# Altium integrated library Xilinx Virtex-II.IntLib: 158 symbols (part 15 of 59)
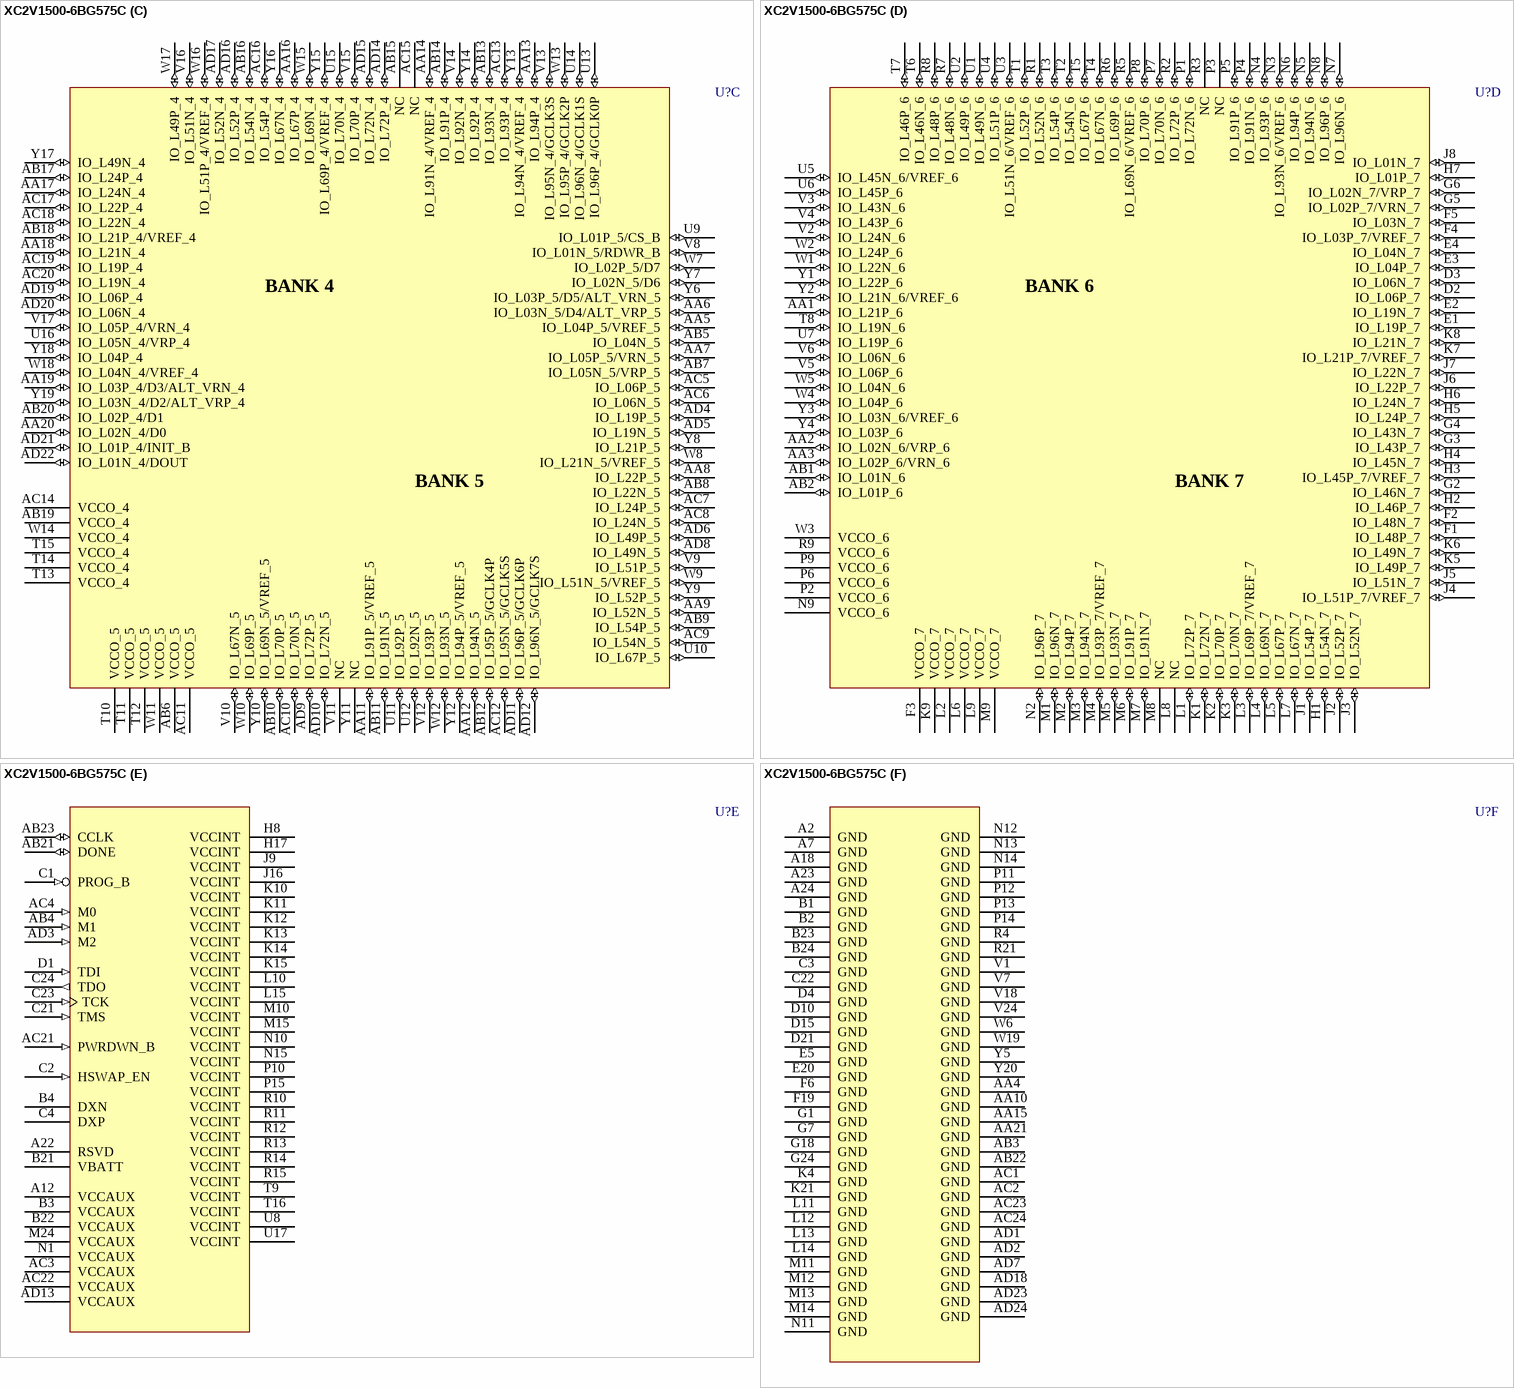
[diagram p413: symbol XC2V1500-6BG575C]

## XC2V1500-6BG575C
designator U?
Virtex-II 1.5V FPGA, 575-Ball BGA, Commercial Grade; PackageDocument: ver1.0, Apr-2001; Published: 15-Apr-2002; DatasheetDocument: Mar-2004; PackageReference: BG575; Publisher: Altium Limited; Code_JEDEC: MS-034-BAN-1 (Depopulated)
footprint BG575 (575-Ball Molded Ball Grid Array (BG575))
3D model XC2V1500-BG575 (575-Ball Molded Ball Grid Array (BG575))
signal-integrity model XC2V1500_BG575 (Virtex-II)
part A pins: A3 IO_L01N_0 (io), A4 IO_L01P_0 (io), A5 IO_L06N_0 (io), A6 IO_L06P_0 (io), A8 IO_L67N_0 (io), A9 IO_L67P_0 (io), A10 IO_L72N_0 (io), A11 IO_L72P_0 (io), A13 IO_L96N_1/GCLK3P (io), A14 IO_L96P_1/GCLK2S (io), A15 IO_L72N_1 (io), A16 IO_L72P_1 (io), A17 IO_L49N_1 (io), A19 IO_L49P_1 (io), A20 IO_L19N_1 (io), A21 IO_L19P_1 (io), B5 IO_L19N_0 (io), B6 IO_L19P_0 (io), B7 IO_L51N_0 (io), B8 IO_L51P_0/VREF_0 (io), B9 IO_L69P_0/VREF_0 (io), B10 NC, B11 VCCO_0 (power), B12 IO_L93P_0 (io), B13 IO_L95N_1/GCLK1P (io), B14 VCCO_1 (power), B15 IO_L70N_1 (io), B16 IO_L54N_1 (io), B17 IO_L24N_1 (io), B18 IO_L24P_1 (io), B19 IO_L06N_1 (io), B20 IO_L06P_1 (io), C5 IO_L02P_0 (io), C6 VCCO_0 (power), C7 IO_L21P_0/VREF_0 (io), C8 IO_L52P_0 (io), C9 IO_L69N_0 (io), C10 NC, C11 IO_L91P_0 (io), C12 IO_L93N_0 (io), C13 IO_L95P_1/GCLK0S (io), C14 IO_L91N_1 (io), C15 IO_L70P_1 (io), C16 IO_L54P_1 (io), C17 IO_L22N_1 (io), C18 IO_L05N_1 (io), C19 VCCO_1 (power), C20 IO_L04N_1 (io), D5 IO_L02N_0 (io), D6 IO_L03P_0/VRN_0 (io), D7 IO_L21N_0 (io), D8 IO_L52N_0 (io), D9 IO_L54P_0 (io), D11 IO_L91N_0/VREF_0 (io), D12 IO_L94P_0 (io), D13 IO_L94N_1 (io), D14 IO_L91P_1/VREF_1 (io), D16 IO_L52N_1 (io), D17 IO_L22P_1 (io), D18 IO_L05P_1 (io), D19 IO_L03N_1/VRP_1 (io), D20 IO_L04P_1/VREF_1 (io), E6 IO_L03N_0/VRP_0 (io), E7 IO_L04P_0 (io), E8 IO_L22P_0 (io), E9 IO_L54N_0 (io), E10 IO_L70P_0 (io), E11 IO_L92P_0 (io), E12 IO_L94N_0/VREF_0 (io), E13 IO_L94P_1/VREF_1 (io), E14 NC, E15 IO_L69N_1/VREF_1 (io), E16 IO_L52P_1 (io), E17 IO_L21P_1 (io), E18 IO_L02N_1 (io), E19 IO_L03P_1/VRN_1 (io), F7 IO_L04N_0/VREF_0 (io), F8 IO_L22N_0 (io), F9 IO_L24P_0 (io), F10 IO_L70N_0 (io), F11 VCCO_0 (power), F12 IO_L95P_0/GCLK6S (io), F13 IO_L93N_1 (io), F14 VCCO_1 (power), F15 IO_L69P_1 (io), F16 IO_L51N_1/VREF_1 (io), F17 IO_L21N_1/VREF_1 (io), F18 IO_L02P_1 (io), G8 IO_L05N_0 (io), G9 IO_L24N_0 (io), G10 IO_L49N_0 (io), G11 IO_L92N_0 (io), G12 IO_L95N_0/GCLK7P (io), G13 IO_L93P_1 (io), G14 NC, G15 IO_L67N_1 (io), G16 IO_L51P_1 (io), G17 IO_L01P_1 (io), H9 IO_L05P_0 (io), H10 IO_L49P_0 (io), H11 IO_L96N_0/GCLK5P (io), H12 IO_L96P_0/GCLK4S (io), H13 IO_L92N_1 (io), H14 IO_L92P_1 (io), H15 IO_L67P_1 (io), H16 IO_L01N_1 (io), J10 VCCO_0 (power), J11 VCCO_0 (power), J12 VCCO_0 (power), J13 VCCO_1 (power), J14 VCCO_1 (power), J15 VCCO_1 (power)
part B pins: AA22 IO_L06P_3 (io), AA23 IO_L06N_3 (io), AA24 IO_L19N_3 (io), AB24 IO_L19P_3 (io), D22 IO_L01N_2 (io), D23 IO_L01P_2 (io), D24 IO_L19N_2 (io), E21 IO_L02N_2/VRP_2 (io), E22 IO_L02P_2/VRN_2 (io), E23 IO_L19P_2 (io), E24 IO_L21N_2 (io), F20 IO_L03P_2/VREF_2 (io), F21 IO_L03N_2 (io), F22 VCCO_2 (power), F23 IO_L22N_2 (io), F24 IO_L21P_2/VREF_2 (io), G19 IO_L04P_2 (io), G20 IO_L04N_2 (io), G21 IO_L24N_2 (io), G22 IO_L24P_2 (io), G23 IO_L22P_2 (io), H18 IO_L06N_2 (io), H19 IO_L43N_2 (io), H20 IO_L43P_2 (io), H21 IO_L49N_2 (io), H22 IO_L49P_2 (io), H23 IO_L48N_2 (io), H24 IO_L48P_2 (io), J17 IO_L06P_2 (io), J18 IO_L45N_2 (io), J19 IO_L45P_2/VREF_2 (io), J20 IO_L54N_2 (io), J21 IO_L54P_2 (io), J22 IO_L52N_2 (io), J23 IO_L52P_2 (io), J24 IO_L51N_2 (io), K16 VCCO_2 (power), K17 IO_L46N_2 (io), K18 IO_L46P_2 (io), K19 IO_L67N_2 (io), K20 IO_L67P_2 (io), K22 IO_L72N_2 (io), K23 IO_L70N_2 (io), K24 IO_L51P_2/VREF_2 (io), L16 VCCO_2 (power), L17 IO_L69N_2 (io), L18 IO_L69P_2/VREF_2 (io), L19 VCCO_2 (power), L20 NC, L21 NC, L22 IO_L72P_2 (io), L23 VCCO_2 (power), L24 IO_L70P_2 (io), M16 VCCO_2 (power), M17 IO_L96N_2 (io), M18 IO_L96P_2 (io), M19 IO_L94N_2 (io), M20 IO_L94P_2 (io), M21 IO_L93N_2 (io), M22 IO_L93P_2/VREF_2 (io), M23 IO_L91N_2 (io), N16 VCCO_3 (power), N17 IO_L91N_3 (io), N18 IO_L93P_3 (io), N19 IO_L93N_3/VREF_3 (io), N20 IO_L94N_3 (io), N21 IO_L94P_3 (io), N22 IO_L96P_3 (io), N23 IO_L96N_3 (io), N24 IO_L91P_2 (io), P16 VCCO_3 (power), P17 IO_L91P_3 (io), P18 IO_L69P_3 (io), P19 VCCO_3 (power), P20 IO_L69N_3/VREF_3 (io), P21 IO_L70P_3 (io), P22 IO_L70N_3 (io), P23 VCCO_3 (power), P24 NC, R16 VCCO_3 (power), R17 IO_L22P_3 (io), R18 IO_L22N_3 (io), R19 IO_L51P_3 (io), R20 IO_L51N_3/VREF_3 (io), R22 IO_L72P_3 (io), R23 IO_L72N_3 (io), R24 NC, T17 IO_L01P_3 (io), T18 IO_L24P_3 (io), T19 IO_L24N_3 (io), T20 IO_L52P_3 (io), T21 IO_L52N_3 (io), T22 IO_L54P_3 (io), T23 IO_L54N_3 (io), T24 IO_L67N_3 (io), U18 IO_L01N_3 (io), U19 IO_L43N_3 (io), U20 IO_L43P_3 (io), U21 IO_L46P_3 (io), U22 IO_L46N_3 (io), U23 IO_L48N_3 (io), U24 IO_L67P_3 (io), V19 IO_L02P_3/VRN_3 (io), V20 IO_L02N_3/VRP_3 (io), V21 IO_L45P_3 (io), V22 IO_L45N_3/VREF_3 (io), V23 IO_L48P_3 (io), W20 IO_L03P_3 (io), W21 IO_L03N_3/VREF_3 (io), W22 VCCO_3 (power), W23 IO_L49P_3 (io), W24 IO_L49N_3 (io), Y21 IO_L04P_3 (io), Y22 IO_L04N_3 (io), Y23 IO_L21P_3 (io), Y24 IO_L21N_3/VREF_3 (io)
part C pins: AA5 IO_L04P_5/VREF_5 (io), AA6 IO_L03N_5/D4/ALT_VRP_5 (io), AA7 IO_L05P_5/VRN_5 (io), AA8 IO_L22P_5 (io), AA9 IO_L52N_5 (io), AA11 IO_L91P_5/VREF_5 (io), AA12 IO_L94N_5 (io), AA13 IO_L94P_4 (io), AA14 IO_L91N_4/VREF_4 (io), AA16 IO_L67P_4 (io), AA17 IO_L24N_4 (io), AA18 IO_L21N_4 (io), AA19 IO_L03P_4/D3/ALT_VRN_4 (io), AA20 IO_L02N_4/D0 (io), AB5 IO_L04N_5 (io), AB6 VCCO_5 (power), AB7 IO_L05N_5/VRP_5 (io), AB8 IO_L22N_5 (io), AB9 IO_L54P_5 (io), AB10 IO_L70P_5 (io), AB11 IO_L91N_5 (io), AB12 IO_L95P_5/GCLK4P (io), AB13 IO_L93N_4 (io), AB14 IO_L91P_4 (io), AB15 NC, AB16 IO_L54N_4 (io), AB17 IO_L24P_4 (io), AB18 IO_L21P_4/VREF_4 (io), AB19 VCCO_4 (power), AB20 IO_L02P_4/D1 (io), AC5 IO_L06P_5 (io), AC6 IO_L06N_5 (io), AC7 IO_L24P_5 (io), AC8 IO_L24N_5 (io), AC9 IO_L54N_5 (io), AC10 IO_L70N_5 (io), AC11 VCCO_5 (power), AC12 IO_L95N_5/GCLK5S (io), AC13 IO_L93P_4 (io), AC14 VCCO_4 (power), AC15 NC, AC16 IO_L54P_4 (io), AC17 IO_L22P_4 (io), AC18 IO_L22N_4 (io), AC19 IO_L19P_4 (io), AC20 IO_L19N_4 (io), AD4 IO_L19P_5 (io), AD5 IO_L19N_5 (io), AD6 IO_L49P_5 (io), AD8 IO_L49N_5 (io), AD9 IO_L72P_5 (io), AD10 IO_L72N_5 (io), AD11 IO_L96P_5/GCLK6P (io), AD12 IO_L96N_5/GCLK7S (io), AD14 IO_L72P_4 (io), AD15 IO_L72N_4 (io), AD16 IO_L52P_4 (io), AD17 IO_L52N_4 (io), AD19 IO_L06P_4 (io), AD20 IO_L06N_4 (io), AD21 IO_L01P_4/INIT_B (io), AD22 IO_L01N_4/DOUT (io), T10 VCCO_5 (power), T11 VCCO_5 (power), T12 VCCO_5 (power), T13 VCCO_4 (power), T14 VCCO_4 (power), T15 VCCO_4 (power), U9 IO_L01P_5/CS_B (io), U10 IO_L67P_5 (io), U11 IO_L92P_5 (io), U12 IO_L92N_5 (io), U13 IO_L96P_4/GCLK0P (io), U14 IO_L96N_4/GCLK1S (io), U15 IO_L70N_4 (io), U16 IO_L05N_4/VRP_4 (io), V8 IO_L01N_5/RDWR_B (io), V9 IO_L51P_5 (io), V10 IO_L67N_5 (io), V11 NC, V12 IO_L93P_5 (io), V13 IO_L95N_4/GCLK3S (io), V14 IO_L92N_4 (io), V15 IO_L70P_4 (io), V16 IO_L51N_4 (io), V17 IO_L05P_4/VRN_4 (io), W7 IO_L02P_5/D7 (io), W8 IO_L21N_5/VREF_5 (io), W9 IO_L51N_5/VREF_5 (io), W10 IO_L69P_5 (io), W11 VCCO_5 (power), W12 IO_L93N_5 (io), W13 IO_L95P_4/GCLK2P (io), W14 VCCO_4 (power), W15 IO_L69N_4 (io), W16 IO_L51P_4/VREF_4 (io), W17 IO_L49P_4 (io), W18 IO_L04N_4/VREF_4 (io), Y6 IO_L03P_5/D5/ALT_VRN_5 (io), Y7 IO_L02N_5/D6 (io), Y8 IO_L21P_5 (io), Y9 IO_L52P_5 (io), Y10 IO_L69N_5/VREF_5 (io), Y11 NC, Y12 IO_L94P_5/VREF_5 (io), Y13 IO_L94N_4/VREF_4 (io), Y14 IO_L92P_4 (io), Y15 IO_L69P_4/VREF_4 (io), Y16 IO_L67N_4 (io), Y17 IO_L49N_4 (io), Y18 IO_L04P_4 (io), Y19 IO_L03N_4/D2/ALT_VRP_4 (io)
part D pins: AA1 IO_L21P_6 (io), AA2 IO_L02N_6/VRP_6 (io), AA3 IO_L02P_6/VRN_6 (io), AB1 IO_L01N_6 (io), AB2 IO_L01P_6 (io), D2 IO_L06P_7 (io), D3 IO_L06N_7 (io), E1 IO_L19P_7 (io), E2 IO_L19N_7 (io), E3 IO_L04P_7 (io), E4 IO_L04N_7 (io), F1 IO_L48P_7 (io), F2 IO_L48N_7 (io), F3 VCCO_7 (power), F4 IO_L03P_7/VREF_7 (io), F5 IO_L03N_7 (io), G2 IO_L46N_7 (io), G3 IO_L43P_7 (io), G4 IO_L43N_7 (io), G5 IO_L02P_7/VRN_7 (io), G6 IO_L02N_7/VRP_7 (io), H1 IO_L54N_7 (io), H2 IO_L46P_7 (io), H3 IO_L45P_7/VREF_7 (io), H4 IO_L45N_7 (io), H5 IO_L24P_7 (io), H6 IO_L24N_7 (io), H7 IO_L01P_7 (io), J1 IO_L54P_7 (io), J2 IO_L52P_7 (io), J3 IO_L52N_7 (io), J4 IO_L51P_7/VREF_7 (io), J5 IO_L51N_7 (io), J6 IO_L22P_7 (io), J7 IO_L22N_7 (io), J8 IO_L01N_7 (io), K1 IO_L72N_7 (io), K2 IO_L70P_7 (io), K3 IO_L70N_7 (io), K5 IO_L49P_7 (io), K6 IO_L49N_7 (io), K7 IO_L21P_7/VREF_7 (io), K8 IO_L21N_7 (io), K9 VCCO_7 (power), L1 IO_L72P_7 (io), L2 VCCO_7 (power), L3 IO_L69P_7/VREF_7 (io), L4 IO_L69N_7 (io), L5 IO_L67P_7 (io), L6 VCCO_7 (power), L7 IO_L67N_7 (io), L8 NC, L9 VCCO_7 (power), M1 IO_L96N_7 (io), M2 IO_L94P_7 (io), M3 IO_L94N_7 (io), M4 IO_L93P_7/VREF_7 (io), M5 IO_L93N_7 (io), M6 IO_L91P_7 (io), M7 IO_L91N_7 (io), M8 NC, M9 VCCO_7 (power), N2 IO_L96P_7 (io), N3 IO_L93N_6/VREF_6 (io), N4 IO_L93P_6 (io), N5 IO_L94N_6 (io), N6 IO_L94P_6 (io), N7 IO_L96N_6 (io), N8 IO_L96P_6 (io), N9 VCCO_6 (power), P1 IO_L72N_6 (io), P2 VCCO_6 (power), P3 NC, P4 IO_L91N_6 (io), P5 IO_L91P_6 (io), P6 VCCO_6 (power), P7 IO_L70N_6 (io), P8 IO_L70P_6 (io), P9 VCCO_6 (power), R1 IO_L52N_6 (io), R2 IO_L72P_6 (io), R3 NC, R5 IO_L69N_6/VREF_6 (io), R6 IO_L69P_6 (io), R7 IO_L48N_6 (io), R8 IO_L48P_6 (io), R9 VCCO_6 (power), T1 IO_L52P_6 (io), T2 IO_L54N_6 (io), T3 IO_L54P_6 (io), T4 IO_L67N_6 (io), T5 IO_L67P_6 (io), T6 IO_L46N_6 (io), T7 IO_L46P_6 (io), T8 IO_L19N_6 (io), U1 IO_L49N_6 (io), U2 IO_L49P_6 (io), U3 IO_L51N_6/VREF_6 (io), U4 IO_L51P_6 (io), U5 IO_L45N_6/VREF_6 (io), U6 IO_L45P_6 (io), U7 IO_L19P_6 (io), V2 IO_L24N_6 (io), V3 IO_L43N_6 (io), V4 IO_L43P_6 (io), V5 IO_L06P_6 (io), V6 IO_L06N_6 (io), W1 IO_L22N_6 (io), W2 IO_L24P_6 (io), W3 VCCO_6 (power), W4 IO_L04P_6 (io), W5 IO_L04N_6 (io), Y1 IO_L22P_6 (io), Y2 IO_L21N_6/VREF_6 (io), Y3 IO_L03N_6/VREF_6 (io), Y4 IO_L03P_6 (io)
part E pins: A12 VCCAUX (power), A22 RSVD, AB4 M1 (in), AB21 DONE (io), AB23 CCLK (io), AC3 VCCAUX (power), AC4 M0 (in), AC21 PWRDWN_B (in), AC22 VCCAUX (power), AD3 M2 (in), AD13 VCCAUX (power), B3 VCCAUX (power), B4 DXN, B21 VBATT (power), B22 VCCAUX (power), C1 PROG_B (in), C2 HSWAP_EN (in), C4 DXP, C21 TMS (in), C23 TCK (in), C24 TDO (out), D1 TDI (in), H8 VCCINT (power), H17 VCCINT (power), J9 VCCINT (power), J16 VCCINT (power), K10 VCCINT (power), K11 VCCINT (power), K12 VCCINT (power), K13 VCCINT (power), K14 VCCINT (power), K15 VCCINT (power), L10 VCCINT (power), L15 VCCINT (power), M10 VCCINT (power), M15 VCCINT (power), M24 VCCAUX (power), N1 VCCAUX (power), N10 VCCINT (power), N15 VCCINT (power), P10 VCCINT (power), P15 VCCINT (power), R10 VCCINT (power), R11 VCCINT (power), R12 VCCINT (power), R13 VCCINT (power), R14 VCCINT (power), R15 VCCINT (power), T9 VCCINT (power), T16 VCCINT (power), U8 VCCINT (power), U17 VCCINT (power)
part F pins: A2 GND (power), A7 GND (power), A18 GND (power), A23 GND (power), A24 GND (power), AA4 GND (power), AA10 GND (power), AA15 GND (power), AA21 GND (power), AB3 GND (power), AB22 GND (power), AC1 GND (power), AC2 GND (power), AC23 GND (power), AC24 GND (power), AD1 GND (power), AD2 GND (power), AD7 GND (power), AD18 GND (power), AD23 GND (power), AD24 GND (power), B1 GND (power), B2 GND (power), B23 GND (power), B24 GND (power), C3 GND (power), C22 GND (power), D4 GND (power), D10 GND (power), D15 GND (power), D21 GND (power), E5 GND (power), E20 GND (power), F6 GND (power), F19 GND (power), G1 GND (power), G7 GND (power), G18 GND (power), G24 GND (power), K4 GND (power), K21 GND (power), L11 GND (power), L12 GND (power), L13 GND (power), L14 GND (power), M11 GND (power), M12 GND (power), M13 GND (power), M14 GND (power), N11 GND (power), N12 GND (power), N13 GND (power), N14 GND (power), P11 GND (power), P12 GND (power), P13 GND (power), P14 GND (power), R4 GND (power), R21 GND (power), V1 GND (power), V7 GND (power), V18 GND (power), V24 GND (power), W6 GND (power), W19 GND (power), Y5 GND (power), Y20 GND (power)
part A text: BANK 0; BANK 1
part B text: BANK 2; BANK 3
part C text: BANK 4; BANK 5
part D text: BANK 6; BANK 7

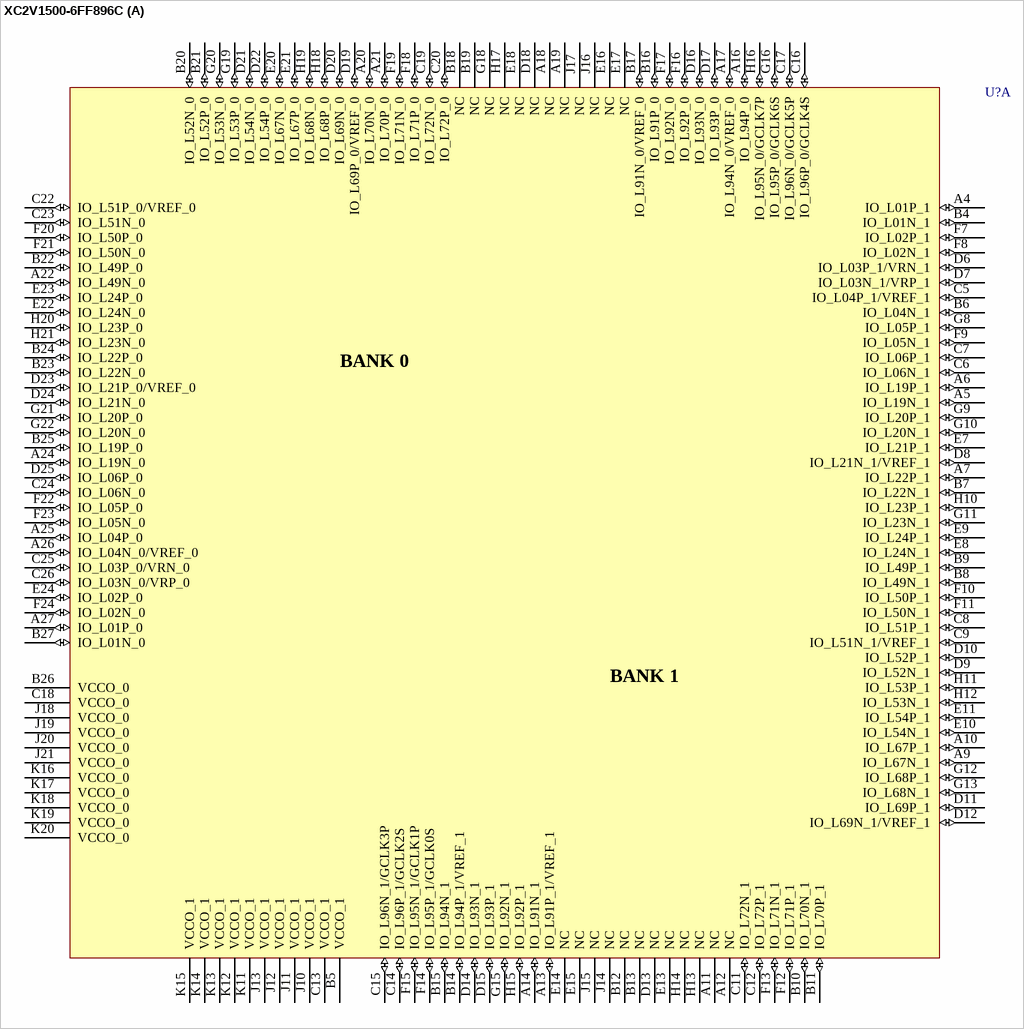
[diagram p149: symbol XC2V1500-6FF896C]

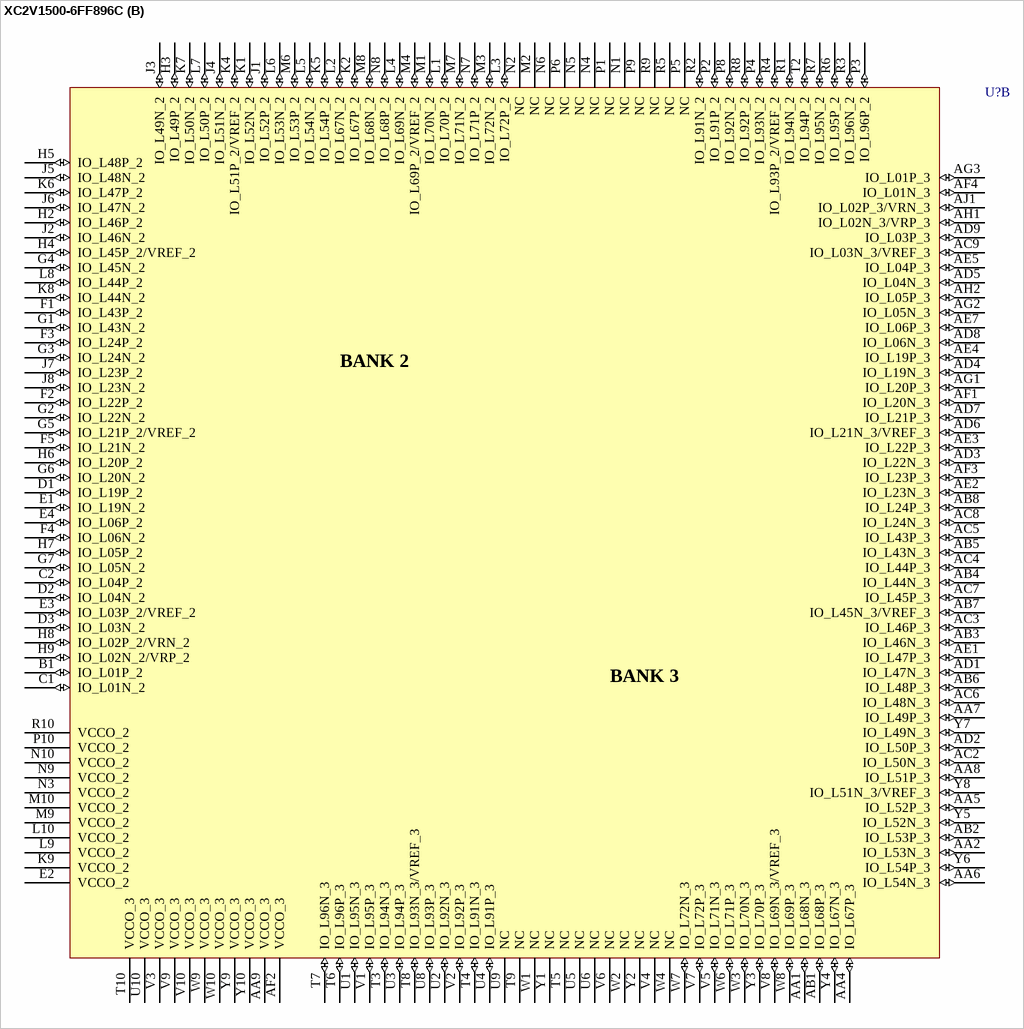
[diagram p150: symbol XC2V1500-6FF896C]

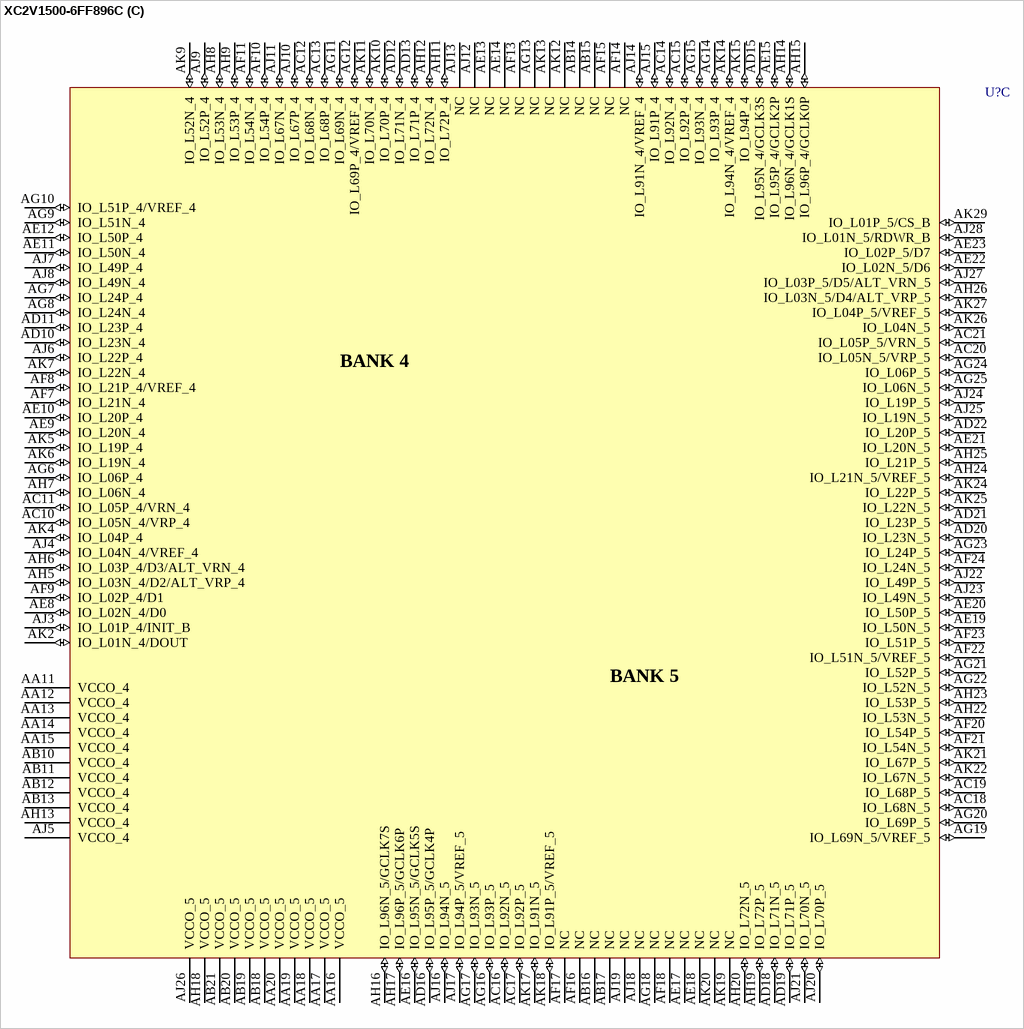
[diagram p151: symbol XC2V1500-6FF896C]

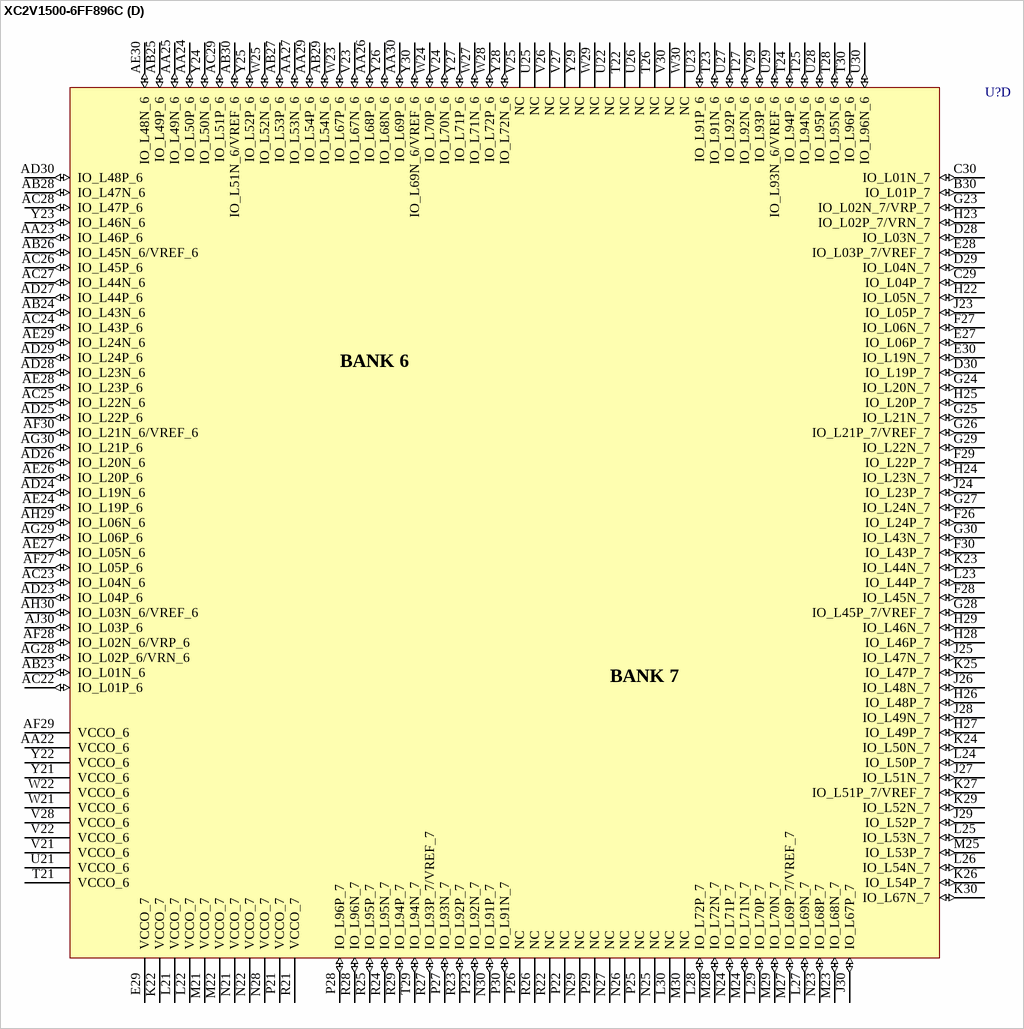
[diagram p152: symbol XC2V1500-6FF896C]

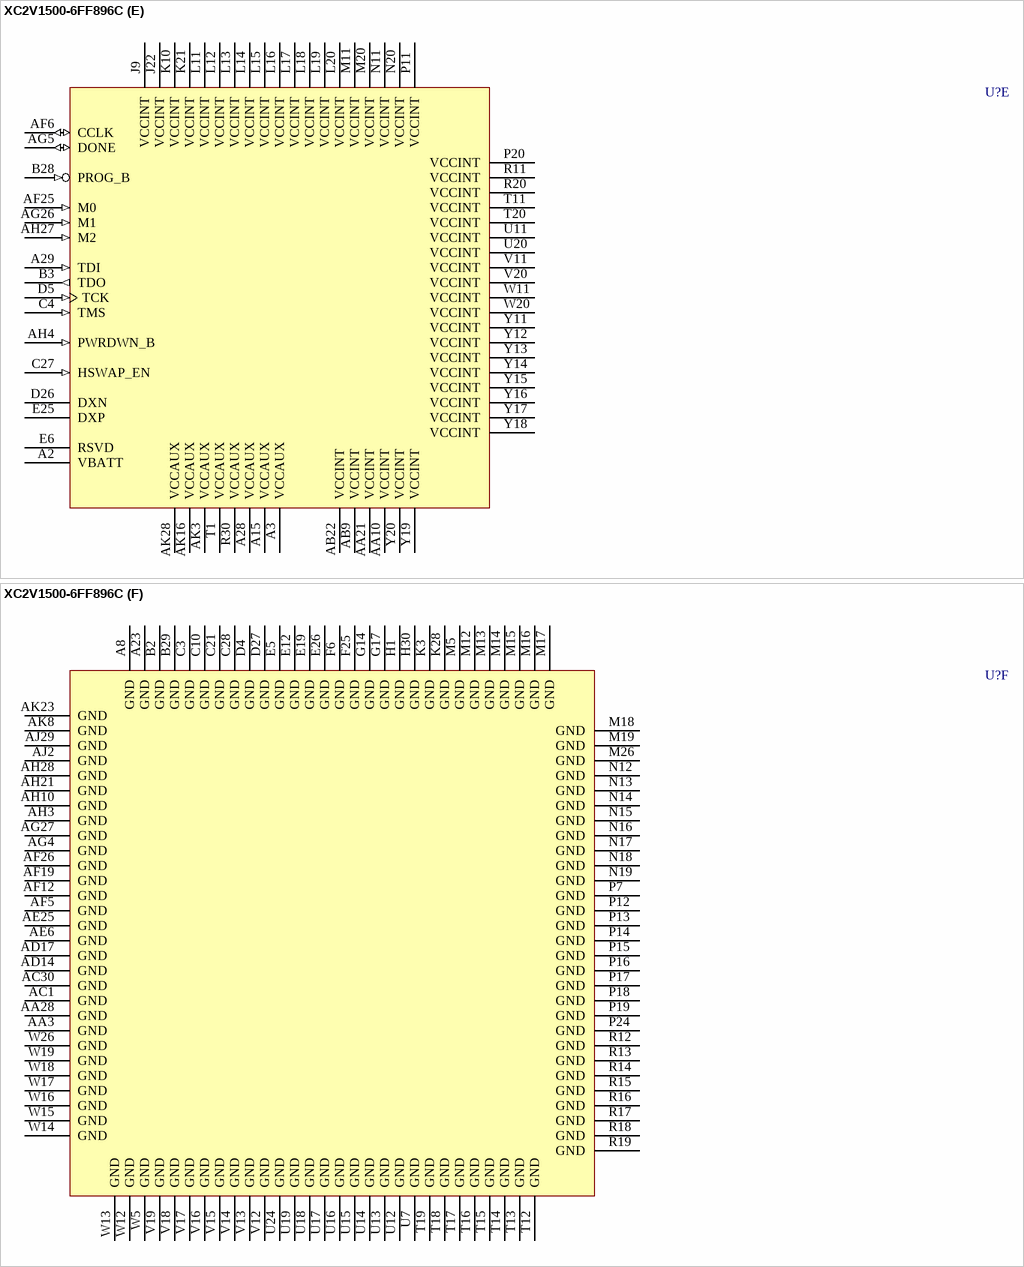
[diagram p153: symbol XC2V1500-6FF896C]

## XC2V1500-6FF896C
designator U?
Virtex-II 1.5V FPGA, 896-Ball BGA, Commercial Grade; PackageDocument: ver1.0, Apr-2001; Published: 15-Apr-2002; DatasheetDocument: Mar-2004; PackageReference: FF896; Publisher: Altium Limited; Code_JEDEC: MS-034-AAN-1
footprint FF896 (896-Ball Flip-Chip Fine Pitch Ball Grid Array (FF896))
3D model XC2V1500-FF896 (896-Ball Flip-Chip Fine Pitch Ball Grid Array (FF896))
signal-integrity model XC2V1500_FF896 (Virtex-II)
part A pins: A4 IO_L01P_1 (io), A5 IO_L19N_1 (io), A6 IO_L19P_1 (io), A7 IO_L22P_1 (io), A9 IO_L67N_1 (io), A10 IO_L67P_1 (io), A11 NC, A12 NC, A13 IO_L91P_1/VREF_1 (io), A14 IO_L91N_1 (io), A16 IO_L94P_0 (io), A17 IO_L94N_0/VREF_0 (io), A18 NC, A19 NC, A20 IO_L70N_0 (io), A21 IO_L70P_0 (io), A22 IO_L49N_0 (io), A24 IO_L19N_0 (io), A25 IO_L04P_0 (io), A26 IO_L04N_0/VREF_0 (io), A27 IO_L01P_0 (io), B4 IO_L01N_1 (io), B5 VCCO_1 (power), B6 IO_L04N_1 (io), B7 IO_L22N_1 (io), B8 IO_L49N_1 (io), B9 IO_L49P_1 (io), B10 IO_L70N_1 (io), B11 IO_L70P_1 (io), B12 NC, B13 NC, B14 IO_L94P_1/VREF_1 (io), B15 IO_L94N_1 (io), B16 IO_L91P_0 (io), B17 IO_L91N_0/VREF_0 (io), B18 NC, B19 NC, B20 IO_L52N_0 (io), B21 IO_L52P_0 (io), B22 IO_L49P_0 (io), B23 IO_L22N_0 (io), B24 IO_L22P_0 (io), B25 IO_L19P_0 (io), B26 VCCO_0 (power), B27 IO_L01N_0 (io), C5 IO_L04P_1/VREF_1 (io), C6 IO_L06N_1 (io), C7 IO_L06P_1 (io), C8 IO_L51P_1 (io), C9 IO_L51N_1/VREF_1 (io), C11 IO_L72N_1 (io), C12 IO_L72P_1 (io), C13 VCCO_1 (power), C14 IO_L96P_1/GCLK2S (io), C15 IO_L96N_1/GCLK3P (io), C16 IO_L96P_0/GCLK4S (io), C17 IO_L96N_0/GCLK5P (io), C18 VCCO_0 (power), C19 IO_L72N_0 (io), C20 IO_L72P_0 (io), C22 IO_L51P_0/VREF_0 (io), C23 IO_L51N_0 (io), C24 IO_L06N_0 (io), C25 IO_L03P_0/VRN_0 (io), C26 IO_L03N_0/VRP_0 (io), D6 IO_L03P_1/VRN_1 (io), D7 IO_L03N_1/VRP_1 (io), D8 IO_L21N_1/VREF_1 (io), D9 IO_L52N_1 (io), D10 IO_L52P_1 (io), D11 IO_L69P_1 (io), D12 IO_L69N_1/VREF_1 (io), D13 NC, D14 IO_L93N_1 (io), D15 IO_L93P_1 (io), D16 IO_L93N_0 (io), D17 IO_L93P_0 (io), D18 NC, D19 IO_L69P_0/VREF_0 (io), D20 IO_L69N_0 (io), D21 IO_L54N_0 (io), D22 IO_L54P_0 (io), D23 IO_L21P_0/VREF_0 (io), D24 IO_L21N_0 (io), D25 IO_L06P_0 (io), E7 IO_L21P_1 (io), E8 IO_L24N_1 (io), E9 IO_L24P_1 (io), E10 IO_L54N_1 (io), E11 IO_L54P_1 (io), E13 NC, E14 NC, E15 NC, E16 NC, E17 NC, E18 NC, E20 IO_L67N_0 (io), E21 IO_L67P_0 (io), E22 IO_L24N_0 (io), E23 IO_L24P_0 (io), E24 IO_L02P_0 (io), F7 IO_L02P_1 (io), F8 IO_L02N_1 (io), F9 IO_L05N_1 (io), F10 IO_L50P_1 (io), F11 IO_L50N_1 (io), F12 IO_L71P_1 (io), F13 IO_L71N_1 (io), F14 IO_L95P_1/GCLK0S (io), F15 IO_L95N_1/GCLK1P (io), F16 IO_L92P_0 (io), F17 IO_L92N_0 (io), F18 IO_L71P_0 (io), F19 IO_L71N_0 (io), F20 IO_L50P_0 (io), F21 IO_L50N_0 (io), F22 IO_L05P_0 (io), F23 IO_L05N_0 (io), F24 IO_L02N_0 (io), G8 IO_L05P_1 (io), G9 IO_L20P_1 (io), G10 IO_L20N_1 (io), G11 IO_L23N_1 (io), G12 IO_L68P_1 (io), G13 IO_L68N_1 (io), G15 IO_L92N_1 (io), G16 IO_L95P_0/GCLK6S (io), G18 NC, G19 IO_L53P_0 (io), G20 IO_L53N_0 (io), G21 IO_L20P_0 (io), G22 IO_L20N_0 (io), H10 IO_L23P_1 (io), H11 IO_L53P_1 (io), H12 IO_L53N_1 (io), H13 NC, H14 NC, H15 IO_L92P_1 (io), H16 IO_L95N_0/GCLK7P (io), H17 NC, H18 IO_L68P_0 (io), H19 IO_L68N_0 (io), H20 IO_L23P_0 (io), H21 IO_L23N_0 (io), J10 VCCO_1 (power), J11 VCCO_1 (power), J12 VCCO_1 (power), J13 VCCO_1 (power), J14 NC, J15 NC, J16 NC, J17 NC, J18 VCCO_0 (power), J19 VCCO_0 (power), J20 VCCO_0 (power), J21 VCCO_0 (power), K11 VCCO_1 (power), K12 VCCO_1 (power), K13 VCCO_1 (power), K14 VCCO_1 (power), K15 VCCO_1 (power), K16 VCCO_0 (power), K17 VCCO_0 (power), K18 VCCO_0 (power), K19 VCCO_0 (power), K20 VCCO_0 (power)
part B pins: AA1 IO_L68N_3 (io), AA2 IO_L53N_3 (io), AA4 IO_L67P_3 (io), AA5 IO_L52P_3 (io), AA6 IO_L54N_3 (io), AA7 IO_L49P_3 (io), AA8 IO_L51P_3 (io), AA9 VCCO_3 (power), AB1 IO_L68P_3 (io), AB2 IO_L53P_3 (io), AB3 IO_L46N_3 (io), AB4 IO_L44N_3 (io), AB5 IO_L43N_3 (io), AB6 IO_L48P_3 (io), AB7 IO_L45N_3/VREF_3 (io), AB8 IO_L24P_3 (io), AC2 IO_L50N_3 (io), AC3 IO_L46P_3 (io), AC4 IO_L44P_3 (io), AC5 IO_L43P_3 (io), AC6 IO_L48N_3 (io), AC7 IO_L45P_3 (io), AC8 IO_L24N_3 (io), AC9 IO_L03N_3/VREF_3 (io), AD1 IO_L47N_3 (io), AD2 IO_L50P_3 (io), AD3 IO_L22N_3 (io), AD4 IO_L19N_3 (io), AD5 IO_L04N_3 (io), AD6 IO_L21N_3/VREF_3 (io), AD7 IO_L21P_3 (io), AD8 IO_L06N_3 (io), AD9 IO_L03P_3 (io), AE1 IO_L47P_3 (io), AE2 IO_L23N_3 (io), AE3 IO_L22P_3 (io), AE4 IO_L19P_3 (io), AE5 IO_L04P_3 (io), AE7 IO_L06P_3 (io), AF1 IO_L20N_3 (io), AF2 VCCO_3 (power), AF3 IO_L23P_3 (io), AF4 IO_L01N_3 (io), AG1 IO_L20P_3 (io), AG2 IO_L05N_3 (io), AG3 IO_L01P_3 (io), AH1 IO_L02N_3/VRP_3 (io), AH2 IO_L05P_3 (io), AJ1 IO_L02P_3/VRN_3 (io), B1 IO_L01P_2 (io), C1 IO_L01N_2 (io), C2 IO_L04P_2 (io), D1 IO_L19P_2 (io), D2 IO_L04N_2 (io), D3 IO_L03N_2 (io), E1 IO_L19N_2 (io), E2 VCCO_2 (power), E3 IO_L03P_2/VREF_2 (io), E4 IO_L06P_2 (io), F1 IO_L43P_2 (io), F2 IO_L22P_2 (io), F3 IO_L24P_2 (io), F4 IO_L06N_2 (io), F5 IO_L21N_2 (io), G1 IO_L43N_2 (io), G2 IO_L22N_2 (io), G3 IO_L24N_2 (io), G4 IO_L45N_2 (io), G5 IO_L21P_2/VREF_2 (io), G6 IO_L20N_2 (io), G7 IO_L05N_2 (io), H2 IO_L46P_2 (io), H3 IO_L49P_2 (io), H4 IO_L45P_2/VREF_2 (io), H5 IO_L48P_2 (io), H6 IO_L20P_2 (io), H7 IO_L05P_2 (io), H8 IO_L02P_2/VRN_2 (io), H9 IO_L02N_2/VRP_2 (io), J1 IO_L52P_2 (io), J2 IO_L46N_2 (io), J3 IO_L49N_2 (io), J4 IO_L51N_2 (io), J5 IO_L48N_2 (io), J6 IO_L47N_2 (io), J7 IO_L23P_2 (io), J8 IO_L23N_2 (io), K1 IO_L52N_2 (io), K2 IO_L67P_2 (io), K4 IO_L51P_2/VREF_2 (io), K5 IO_L54P_2 (io), K6 IO_L47P_2 (io), K7 IO_L50N_2 (io), K8 IO_L44N_2 (io), K9 VCCO_2 (power), L1 IO_L70P_2 (io), L2 IO_L67N_2 (io), L3 IO_L72P_2 (io), L4 IO_L69N_2 (io), L5 IO_L54N_2 (io), L6 IO_L53N_2 (io), L7 IO_L50P_2 (io), L8 IO_L44P_2 (io), L9 VCCO_2 (power), L10 VCCO_2 (power), M1 IO_L70N_2 (io), M2 NC, M3 IO_L72N_2 (io), M4 IO_L69P_2/VREF_2 (io), M6 IO_L53P_2 (io), M7 IO_L71N_2 (io), M8 IO_L68N_2 (io), M9 VCCO_2 (power), M10 VCCO_2 (power), N1 NC, N2 NC, N3 VCCO_2 (power), N4 NC, N5 NC, N6 NC, N7 IO_L71P_2 (io), N8 IO_L68P_2 (io), N9 VCCO_2 (power), N10 VCCO_2 (power), P1 NC, P2 IO_L91P_2 (io), P3 IO_L96P_2 (io), P4 IO_L93N_2 (io), P5 NC, P6 NC, P8 IO_L92N_2 (io), P9 NC, P10 VCCO_2 (power), R1 IO_L94N_2 (io), R2 IO_L91N_2 (io), R3 IO_L96N_2 (io), R4 IO_L93P_2/VREF_2 (io), R5 NC, R6 IO_L95P_2 (io), R7 IO_L95N_2 (io), R8 IO_L92P_2 (io), R9 NC, R10 VCCO_2 (power), T2 IO_L94P_2 (io), T3 IO_L94N_3 (io), T4 IO_L91N_3 (io), T5 NC, T6 IO_L96P_3 (io), T7 IO_L96N_3 (io), T8 IO_L93N_3/VREF_3 (io), T9 NC, T10 VCCO_3 (power), U1 IO_L95N_3 (io), U2 IO_L92N_3 (io), U3 IO_L94P_3 (io), U4 IO_L91P_3 (io), U5 NC, U6 NC, U8 IO_L93P_3 (io), U9 NC, U10 VCCO_3 (power), V1 IO_L95P_3 (io), V2 IO_L92P_3 (io), V3 VCCO_3 (power), V4 NC, V5 IO_L71N_3 (io), V6 NC, V7 IO_L72P_3 (io), V8 IO_L69N_3/VREF_3 (io), V9 VCCO_3 (power), V10 VCCO_3 (power), W1 NC, W2 NC, W3 IO_L70N_3 (io), W4 NC, W6 IO_L71P_3 (io), W7 IO_L72N_3 (io), W8 IO_L69P_3 (io), W9 VCCO_3 (power), W10 VCCO_3 (power), Y1 NC, Y2 NC, Y3 IO_L70P_3 (io), Y4 IO_L67N_3 (io), Y5 IO_L52N_3 (io), Y6 IO_L54P_3 (io), Y7 IO_L49N_3 (io), Y8 IO_L51N_3/VREF_3 (io), Y9 VCCO_3 (power), Y10 VCCO_3 (power)
part C pins: AA11 VCCO_4 (power), AA12 VCCO_4 (power), AA13 VCCO_4 (power), AA14 VCCO_4 (power), AA15 VCCO_4 (power), AA16 VCCO_5 (power), AA17 VCCO_5 (power), AA18 VCCO_5 (power), AA19 VCCO_5 (power), AA20 VCCO_5 (power), AB10 VCCO_4 (power), AB11 VCCO_4 (power), AB12 VCCO_4 (power), AB13 VCCO_4 (power), AB14 NC, AB15 NC, AB16 NC, AB17 NC, AB18 VCCO_5 (power), AB19 VCCO_5 (power), AB20 VCCO_5 (power), AB21 VCCO_5 (power), AC10 IO_L05N_4/VRP_4 (io), AC11 IO_L05P_4/VRN_4 (io), AC12 IO_L68N_4 (io), AC13 IO_L68P_4 (io), AC14 IO_L92N_4 (io), AC15 IO_L92P_4 (io), AC16 IO_L92N_5 (io), AC17 IO_L92P_5 (io), AC18 IO_L68N_5 (io), AC19 IO_L68P_5 (io), AC20 IO_L05N_5/VRP_5 (io), AC21 IO_L05P_5/VRN_5 (io), AD10 IO_L23N_4 (io), AD11 IO_L23P_4 (io), AD12 IO_L71N_4 (io), AD13 IO_L71P_4 (io), AD15 IO_L95N_4/GCLK3S (io), AD16 IO_L95P_5/GCLK4P (io), AD18 IO_L71N_5 (io), AD19 IO_L71P_5 (io), AD20 IO_L23N_5 (io), AD21 IO_L23P_5 (io), AD22 IO_L20P_5 (io), AE8 IO_L02N_4/D0 (io), AE9 IO_L20N_4 (io), AE10 IO_L20P_4 (io), AE11 IO_L50N_4 (io), AE12 IO_L50P_4 (io), AE13 NC, AE14 NC, AE15 IO_L95P_4/GCLK2P (io), AE16 IO_L95N_5/GCLK5S (io), AE17 NC, AE18 NC, AE19 IO_L50N_5 (io), AE20 IO_L50P_5 (io), AE21 IO_L20N_5 (io), AE22 IO_L02N_5/D6 (io), AE23 IO_L02P_5/D7 (io), AF7 IO_L21N_4 (io), AF8 IO_L21P_4/VREF_4 (io), AF9 IO_L02P_4/D1 (io), AF10 IO_L54P_4 (io), AF11 IO_L54N_4 (io), AF13 NC, AF14 NC, AF15 NC, AF16 NC, AF17 NC, AF18 NC, AF20 IO_L54P_5 (io), AF21 IO_L54N_5 (io), AF22 IO_L51N_5/VREF_5 (io), AF23 IO_L51P_5 (io), AF24 IO_L24N_5 (io), AG6 IO_L06P_4 (io), AG7 IO_L24P_4 (io), AG8 IO_L24N_4 (io), AG9 IO_L51N_4 (io), AG10 IO_L51P_4/VREF_4 (io), AG11 IO_L69N_4 (io), AG12 IO_L69P_4/VREF_4 (io), AG13 NC, AG14 IO_L93P_4 (io), AG15 IO_L93N_4 (io), AG16 IO_L93P_5 (io), AG17 IO_L93N_5 (io), AG18 NC, AG19 IO_L69N_5/VREF_5 (io), AG20 IO_L69P_5 (io), AG21 IO_L52P_5 (io), AG22 IO_L52N_5 (io), AG23 IO_L24P_5 (io), AG24 IO_L06P_5 (io), AG25 IO_L06N_5 (io), AH5 IO_L03N_4/D2/ALT_VRP_4 (io), AH6 IO_L03P_4/D3/ALT_VRN_4 (io), AH7 IO_L06N_4 (io), AH8 IO_L53N_4 (io), AH9 IO_L53P_4 (io), AH11 IO_L72P_4 (io), AH12 IO_L72N_4 (io), AH13 VCCO_4 (power), AH14 IO_L96N_4/GCLK1S (io), AH15 IO_L96P_4/GCLK0P (io), AH16 IO_L96N_5/GCLK7S (io), AH17 IO_L96P_5/GCLK6P (io), AH18 VCCO_5 (power), AH19 IO_L72P_5 (io), AH20 IO_L72N_5 (io), AH22 IO_L53N_5 (io), AH23 IO_L53P_5 (io), AH24 IO_L21N_5/VREF_5 (io), AH25 IO_L21P_5 (io), AH26 IO_L03N_5/D4/ALT_VRP_5 (io), AJ3 IO_L01P_4/INIT_B (io), AJ4 IO_L04N_4/VREF_4 (io), AJ5 VCCO_4 (power), AJ6 IO_L22P_4 (io), AJ7 IO_L49P_4 (io), AJ8 IO_L49N_4 (io), AJ9 IO_L52P_4 (io), AJ10 IO_L67P_4 (io), AJ11 IO_L67N_4 (io), AJ12 NC, AJ13 NC, AJ14 IO_L91N_4/VREF_4 (io), AJ15 IO_L91P_4 (io), AJ16 IO_L94N_5 (io), AJ17 IO_L94P_5/VREF_5 (io), AJ18 NC, AJ19 NC, AJ20 IO_L70P_5 (io), AJ21 IO_L70N_5 (io), AJ22 IO_L49P_5 (io), AJ23 IO_L49N_5 (io), AJ24 IO_L19P_5 (io), AJ25 IO_L19N_5 (io), AJ26 VCCO_5 (power), AJ27 IO_L03P_5/D5/ALT_VRN_5 (io), AJ28 IO_L01N_5/RDWR_B (io), AK2 IO_L01N_4/DOUT (io), AK4 IO_L04P_4 (io), AK5 IO_L19P_4 (io), AK6 IO_L19N_4 (io), AK7 IO_L22N_4 (io), AK9 IO_L52N_4 (io), AK10 IO_L70P_4 (io), AK11 IO_L70N_4 (io), AK12 NC, AK13 NC, AK14 IO_L94N_4/VREF_4 (io), AK15 IO_L94P_4 (io), AK17 IO_L91N_5 (io), AK18 IO_L91P_5/VREF_5 (io), AK19 NC, AK20 NC, AK21 IO_L67P_5 (io), AK22 IO_L67N_5 (io), AK24 IO_L22P_5 (io), AK25 IO_L22N_5 (io), AK26 IO_L04N_5 (io), AK27 IO_L04P_5/VREF_5 (io), AK29 IO_L01P_5/CS_B (io)
part D pins: AA22 VCCO_6 (power), AA23 IO_L46P_6 (io), AA24 IO_L50P_6 (io), AA25 IO_L49N_6 (io), AA26 IO_L68P_6 (io), AA27 IO_L53N_6 (io), AA29 IO_L54P_6 (io), AA30 IO_L69P_6 (io), AB23 IO_L01N_6 (io), AB24 IO_L43N_6 (io), AB25 IO_L49P_6 (io), AB26 IO_L45N_6/VREF_6 (io), AB27 IO_L53P_6 (io), AB28 IO_L47N_6 (io), AB29 IO_L54N_6 (io), AB30 IO_L51N_6/VREF_6 (io), AC22 IO_L01P_6 (io), AC23 IO_L04N_6 (io), AC24 IO_L43P_6 (io), AC25 IO_L22N_6 (io), AC26 IO_L45P_6 (io), AC27 IO_L44N_6 (io), AC28 IO_L47P_6 (io), AC29 IO_L51P_6 (io), AD23 IO_L04P_6 (io), AD24 IO_L19N_6 (io), AD25 IO_L22P_6 (io), AD26 IO_L20N_6 (io), AD27 IO_L44P_6 (io), AD28 IO_L23N_6 (io), AD29 IO_L24P_6 (io), AD30 IO_L48P_6 (io), AE24 IO_L19P_6 (io), AE26 IO_L20P_6 (io), AE27 IO_L05N_6 (io), AE28 IO_L23P_6 (io), AE29 IO_L24N_6 (io), AE30 IO_L48N_6 (io), AF27 IO_L05P_6 (io), AF28 IO_L02N_6/VRP_6 (io), AF29 VCCO_6 (power), AF30 IO_L21N_6/VREF_6 (io), AG28 IO_L02P_6/VRN_6 (io), AG29 IO_L06P_6 (io), AG30 IO_L21P_6 (io), AH29 IO_L06N_6 (io), AH30 IO_L03N_6/VREF_6 (io), AJ30 IO_L03P_6 (io), B30 IO_L01P_7 (io), C29 IO_L04P_7 (io), C30 IO_L01N_7 (io), D28 IO_L03N_7 (io), D29 IO_L04N_7 (io), D30 IO_L19P_7 (io), E27 IO_L06P_7 (io), E28 IO_L03P_7/VREF_7 (io), E29 VCCO_7 (power), E30 IO_L19N_7 (io), F26 IO_L24P_7 (io), F27 IO_L06N_7 (io), F28 IO_L45N_7 (io), F29 IO_L22P_7 (io), F30 IO_L43P_7 (io), G23 IO_L02N_7/VRP_7 (io), G24 IO_L20N_7 (io), G25 IO_L21N_7 (io), G26 IO_L21P_7/VREF_7 (io), G27 IO_L24N_7 (io), G28 IO_L45P_7/VREF_7 (io), G29 IO_L22N_7 (io), G30 IO_L43N_7 (io), H22 IO_L05N_7 (io), H23 IO_L02P_7/VRN_7 (io), H24 IO_L23N_7 (io), H25 IO_L20P_7 (io), H26 IO_L48P_7 (io), H27 IO_L49P_7 (io), H28 IO_L46P_7 (io), H29 IO_L46N_7 (io), J23 IO_L05P_7 (io), J24 IO_L23P_7 (io), J25 IO_L47N_7 (io), J26 IO_L48N_7 (io), J27 IO_L51N_7 (io), J28 IO_L49N_7 (io), J29 IO_L52P_7 (io), J30 IO_L67P_7 (io), K22 VCCO_7 (power), K23 IO_L44N_7 (io), K24 IO_L50N_7 (io), K25 IO_L47P_7 (io), K26 IO_L54P_7 (io), K27 IO_L51P_7/VREF_7 (io), K29 IO_L52N_7 (io), K30 IO_L67N_7 (io), L21 VCCO_7 (power), L22 VCCO_7 (power), L23 IO_L44P_7 (io), L24 IO_L50P_7 (io), L25 IO_L53N_7 (io), L26 IO_L54N_7 (io), L27 IO_L69N_7 (io), L28 IO_L72P_7 (io), L29 IO_L70P_7 (io), L30 NC, M21 VCCO_7 (power), M22 VCCO_7 (power), M23 IO_L68N_7 (io), M24 IO_L71N_7 (io), M25 IO_L53P_7 (io), M27 IO_L69P_7/VREF_7 (io), M28 IO_L72N_7 (io), M29 IO_L70N_7 (io), M30 NC, N21 VCCO_7 (power), N22 VCCO_7 (power), N23 IO_L68P_7 (io), N24 IO_L71P_7 (io), N25 NC, N26 NC, N27 NC, N28 VCCO_7 (power), N29 NC, N30 IO_L91P_7 (io), P21 VCCO_7 (power), P22 NC, P23 IO_L92N_7 (io), P25 NC, P26 NC, P27 IO_L93N_7 (io), P28 IO_L96P_7 (io), P29 NC, P30 IO_L91N_7 (io), R21 VCCO_7 (power), R22 NC, R23 IO_L92P_7 (io), R24 IO_L95N_7 (io), R25 IO_L95P_7 (io), R26 NC, R27 IO_L93P_7/VREF_7 (io), R28 IO_L96N_7 (io), R29 IO_L94P_7 (io), T21 VCCO_6 (power), T22 NC, T23 IO_L91N_6 (io), T24 IO_L94P_6 (io), T25 IO_L94N_6 (io), T26 NC, T27 IO_L92N_6 (io), T28 IO_L95N_6 (io), T29 IO_L94N_7 (io), T30 IO_L96P_6 (io), U21 VCCO_6 (power), U22 NC, U23 IO_L91P_6 (io), U25 NC, U26 NC, U27 IO_L92P_6 (io), U28 IO_L95P_6 (io), U29 IO_L93N_6/VREF_6 (io), U30 IO_L96N_6 (io), V21 VCCO_6 (power), V22 VCCO_6 (power), V23 IO_L67N_6 (io), V24 IO_L70N_6 (io), V25 NC, V26 NC, V27 NC, V28 VCCO_6 (power), V29 IO_L93P_6 (io), V30 NC, W21 VCCO_6 (power), W22 VCCO_6 (power), W23 IO_L67P_6 (io), W24 IO_L70P_6 (io), W25 IO_L52N_6 (io), W27 IO_L71N_6 (io), W28 IO_L72P_6 (io), W29 NC, W30 NC, Y21 VCCO_6 (power), Y22 VCCO_6 (power), Y23 IO_L46N_6 (io), Y24 IO_L50N_6 (io), Y25 IO_L52P_6 (io), Y26 IO_L68N_6 (io), Y27 IO_L71P_6 (io), Y28 IO_L72N_6 (io), Y29 NC, Y30 IO_L69N_6/VREF_6 (io)
part E pins: A2 VBATT (power), A3 VCCAUX (power), A15 VCCAUX (power), A28 VCCAUX (power), A29 TDI (in), AA10 VCCINT (power), AA21 VCCINT (power), AB9 VCCINT (power), AB22 VCCINT (power), AF6 CCLK (io), AF25 M0 (in), AG5 DONE (io), AG26 M1 (in), AH4 PWRDWN_B (in), AH27 M2 (in), AK3 VCCAUX (power), AK16 VCCAUX (power), AK28 VCCAUX (power), B3 TDO (out), B28 PROG_B (in), C4 TMS (in), C27 HSWAP_EN (in), D5 TCK (in), D26 DXN, E6 RSVD, E25 DXP, J9 VCCINT (power), J22 VCCINT (power), K10 VCCINT (power), K21 VCCINT (power), L11 VCCINT (power), L12 VCCINT (power), L13 VCCINT (power), L14 VCCINT (power), L15 VCCINT (power), L16 VCCINT (power), L17 VCCINT (power), L18 VCCINT (power), L19 VCCINT (power), L20 VCCINT (power), M11 VCCINT (power), M20 VCCINT (power), N11 VCCINT (power), N20 VCCINT (power), P11 VCCINT (power), P20 VCCINT (power), R11 VCCINT (power), R20 VCCINT (power), R30 VCCAUX (power), T1 VCCAUX (power), T11 VCCINT (power), T20 VCCINT (power), U11 VCCINT (power), U20 VCCINT (power), V11 VCCINT (power), V20 VCCINT (power), W11 VCCINT (power), W20 VCCINT (power), Y11 VCCINT (power), Y12 VCCINT (power), Y13 VCCINT (power), Y14 VCCINT (power), Y15 VCCINT (power), Y16 VCCINT (power), Y17 VCCINT (power), Y18 VCCINT (power), Y19 VCCINT (power), Y20 VCCINT (power)
part F pins: A8 GND (power), A23 GND (power), AA3 GND (power), AA28 GND (power), AC1 GND (power), AC30 GND (power), AD14 GND (power), AD17 GND (power), AE6 GND (power), AE25 GND (power), AF5 GND (power), AF12 GND (power), AF19 GND (power), AF26 GND (power), AG4 GND (power), AG27 GND (power), AH3 GND (power), AH10 GND (power), AH21 GND (power), AH28 GND (power), AJ2 GND (power), AJ29 GND (power), AK8 GND (power), AK23 GND (power), B2 GND (power), B29 GND (power), C3 GND (power), C10 GND (power), C21 GND (power), C28 GND (power), D4 GND (power), D27 GND (power), E5 GND (power), E12 GND (power), E19 GND (power), E26 GND (power), F6 GND (power), F25 GND (power), G14 GND (power), G17 GND (power), H1 GND (power), H30 GND (power), K3 GND (power), K28 GND (power), M5 GND (power), M12 GND (power), M13 GND (power), M14 GND (power), M15 GND (power), M16 GND (power), M17 GND (power), M18 GND (power), M19 GND (power), M26 GND (power), N12 GND (power), N13 GND (power), N14 GND (power), N15 GND (power), N16 GND (power), N17 GND (power), N18 GND (power), N19 GND (power), P7 GND (power), P12 GND (power), P13 GND (power), P14 GND (power), P15 GND (power), P16 GND (power), P17 GND (power), P18 GND (power), P19 GND (power), P24 GND (power), R12 GND (power), R13 GND (power), R14 GND (power), R15 GND (power), R16 GND (power), R17 GND (power), R18 GND (power), R19 GND (power), T12 GND (power), T13 GND (power), T14 GND (power), T15 GND (power), T16 GND (power), T17 GND (power), T18 GND (power), T19 GND (power), U7 GND (power), U12 GND (power), U13 GND (power), U14 GND (power), U15 GND (power), U16 GND (power), U17 GND (power), U18 GND (power), U19 GND (power), U24 GND (power), V12 GND (power), V13 GND (power), V14 GND (power), V15 GND (power), V16 GND (power), V17 GND (power), V18 GND (power), V19 GND (power), W5 GND (power), W12 GND (power), W13 GND (power), W14 GND (power), W15 GND (power), W16 GND (power), W17 GND (power), W18 GND (power), W19 GND (power), W26 GND (power)
part A text: BANK 0; BANK 1
part B text: BANK 2; BANK 3
part C text: BANK 4; BANK 5
part D text: BANK 6; BANK 7

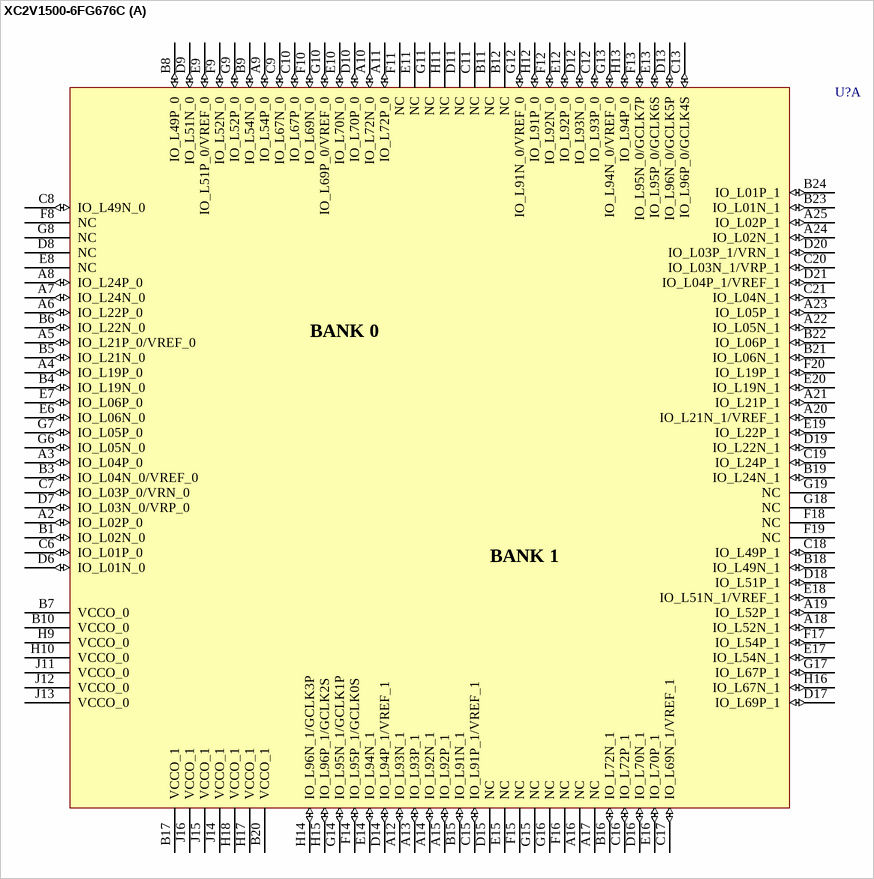
[diagram p154: symbol XC2V1500-6FG676C]

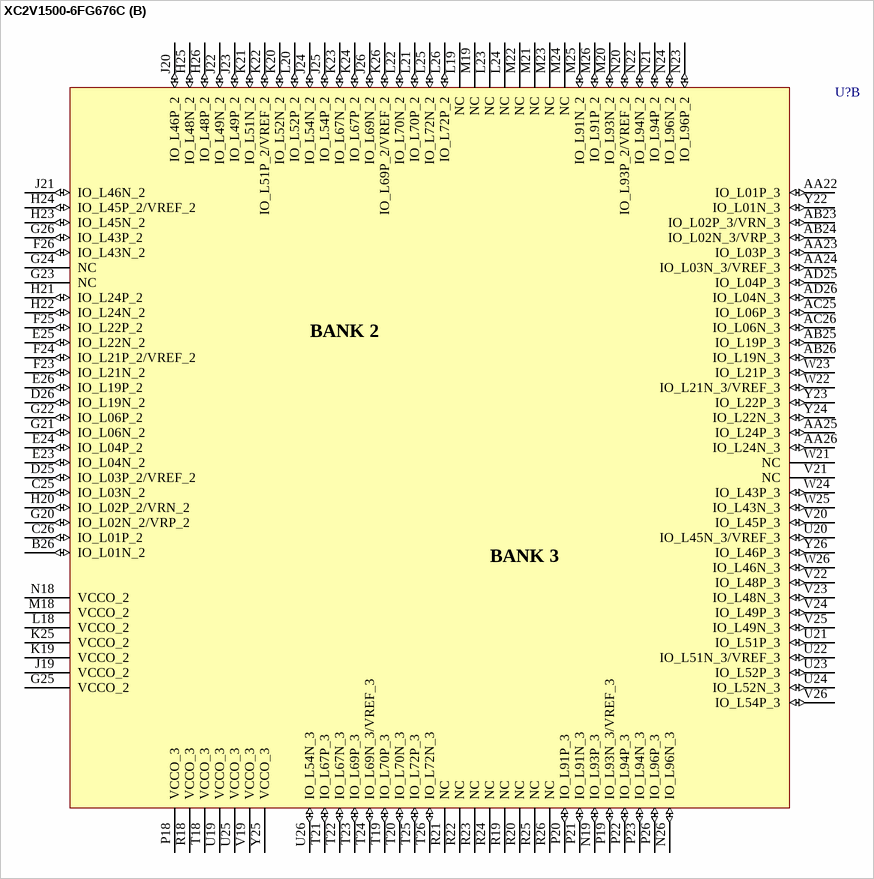
[diagram p155: symbol XC2V1500-6FG676C]

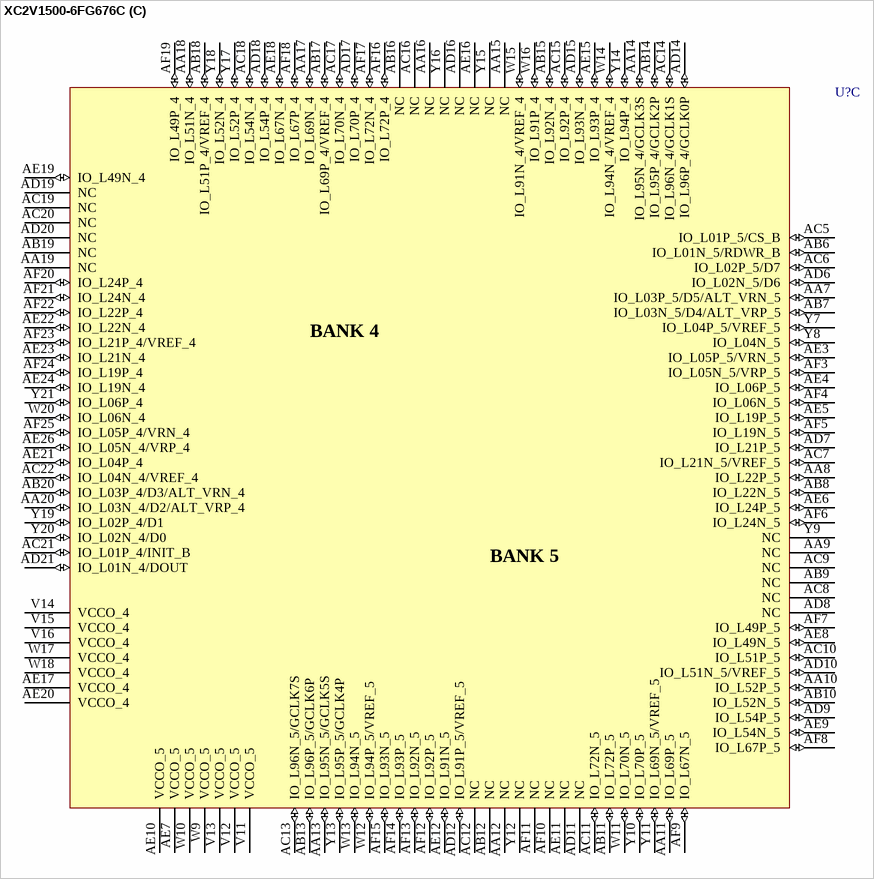
[diagram p156: symbol XC2V1500-6FG676C]

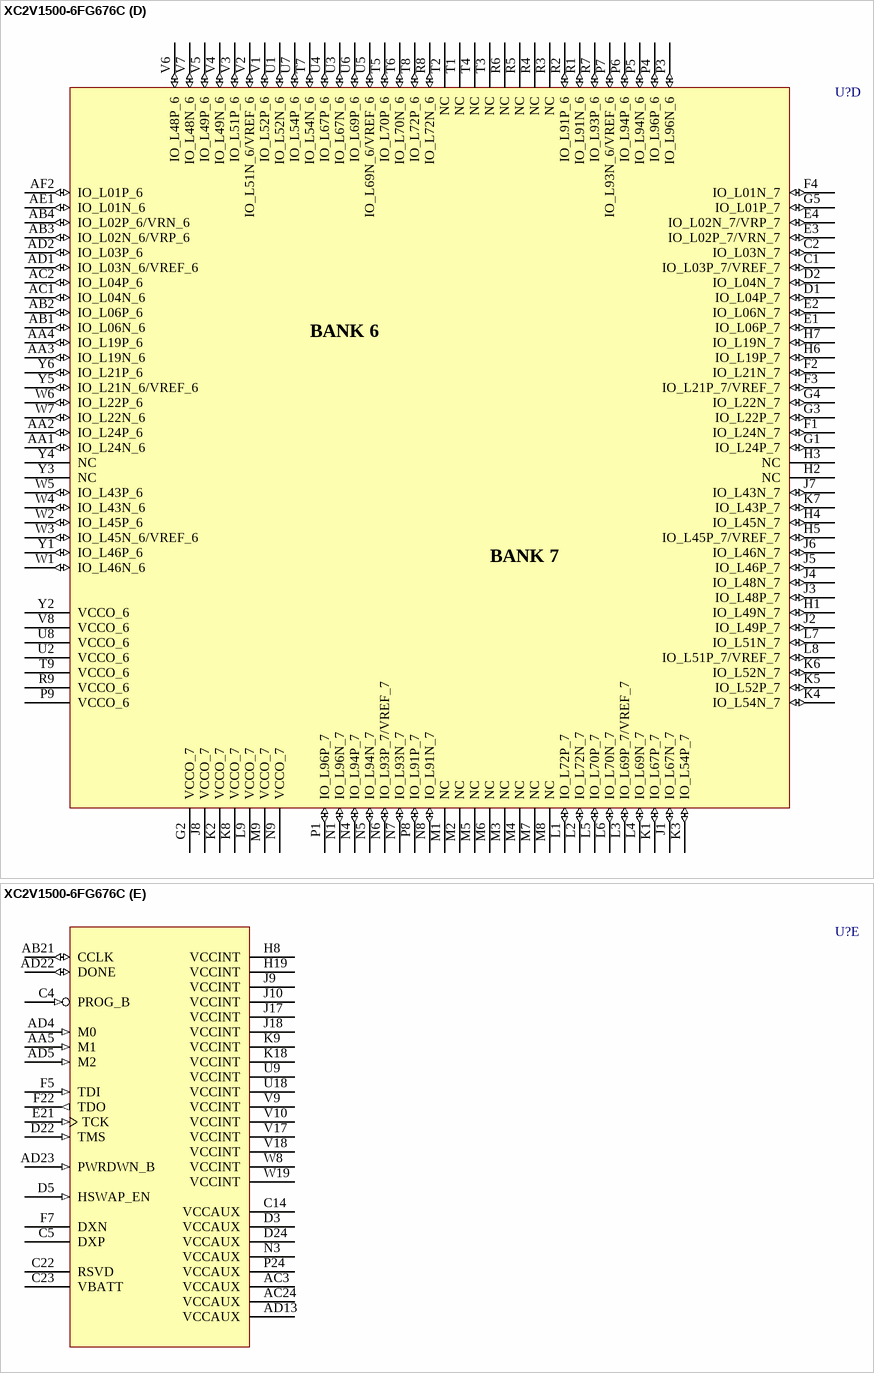
[diagram p157: symbol XC2V1500-6FG676C]

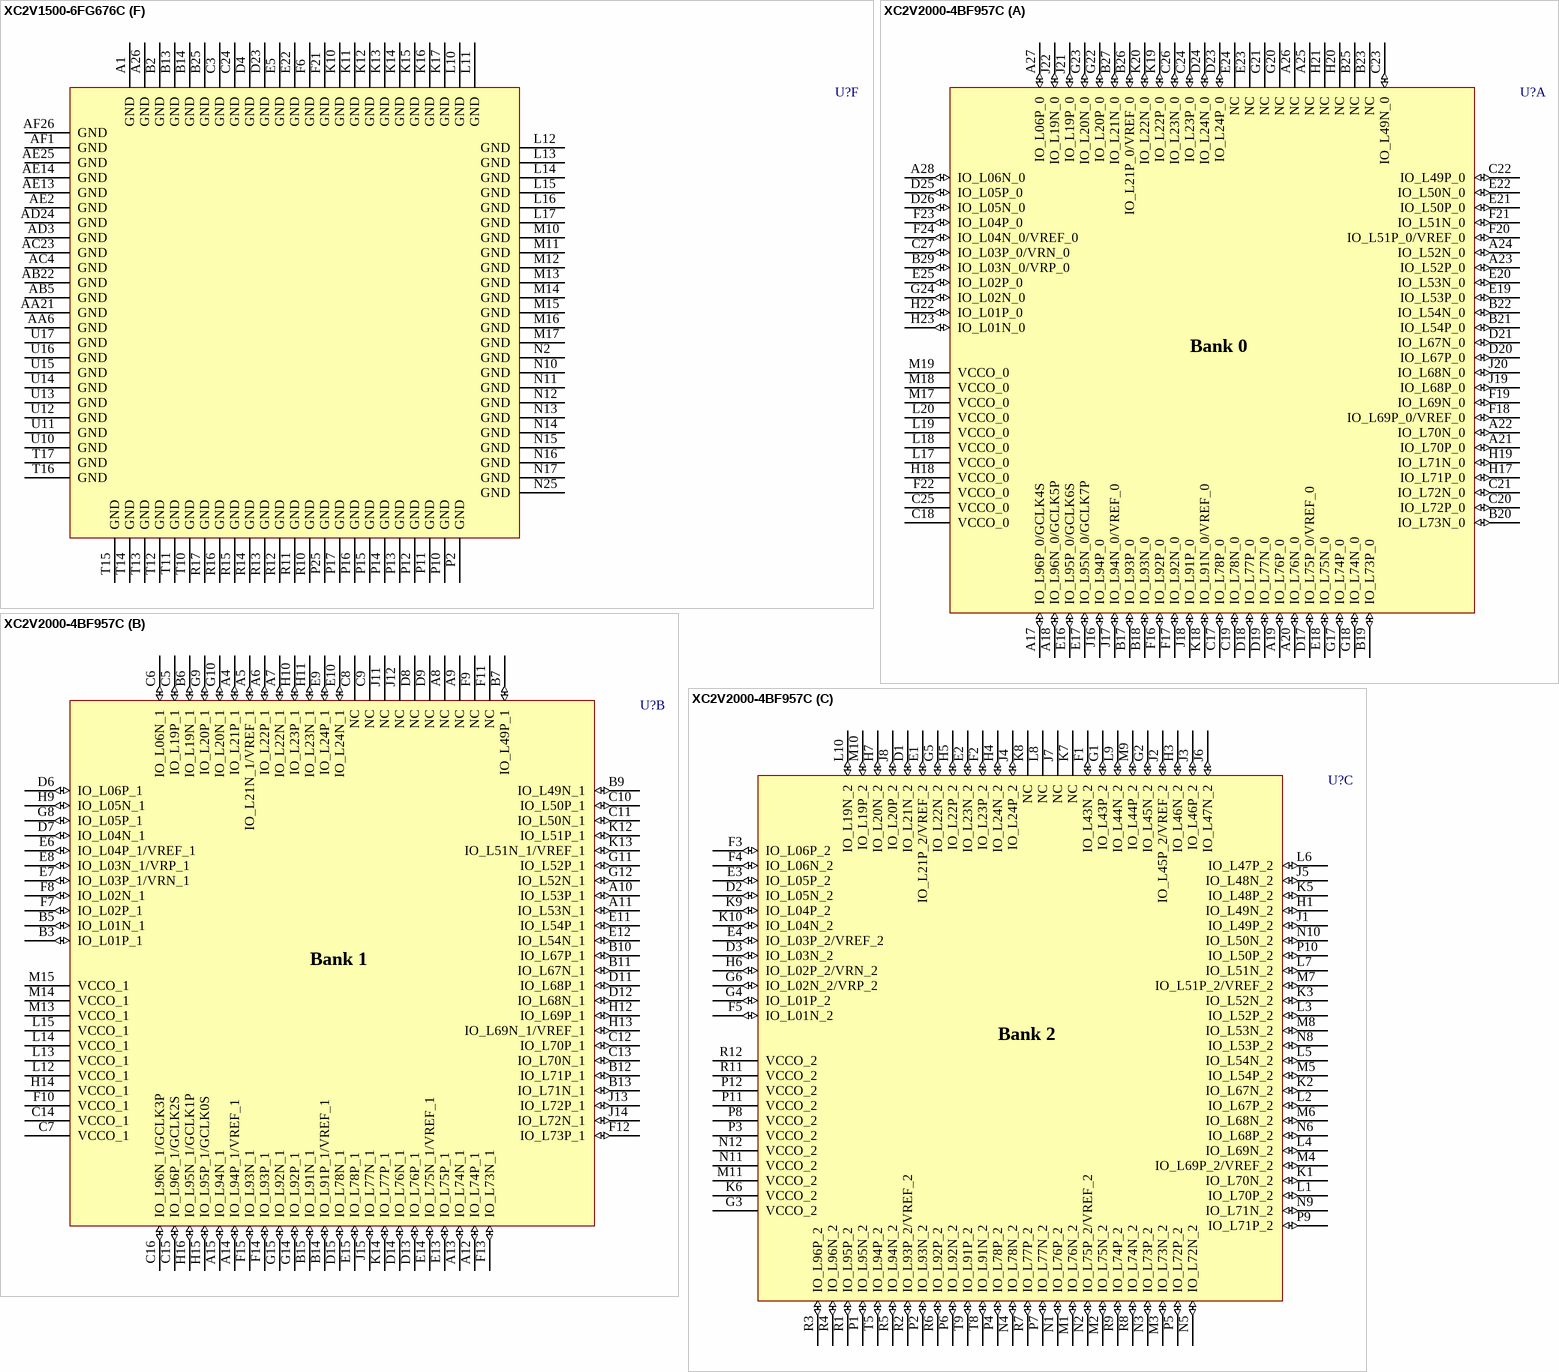
[diagram p158: symbols XC2V1500-6FG676C to XC2V2000-4BF957C]

## XC2V1500-6FG676C
designator U?
Virtex-II 1.5V FPGA, 676-Ball FBGA, Commercial Grade; PackageDocument: ver1.1, Apr-2001; Published: 15-Apr-2002; DatasheetDocument: Mar-2004; PackageReference: FG676; Publisher: Altium Limited; Code_JEDEC: MS-034-AAL-1; Code_IPC: PBGA 27X27 FE676
footprint FG676 (676-Ball Fine Pitch Ball Grid Array (FG676))
3D model XC2V1500-FG676 (676-Ball Fine Pitch Ball Grid Array (FG676))
signal-integrity model XC2V1500_FG676 (Virtex-II)
part A pins: A2 IO_L02P_0 (io), A3 IO_L04P_0 (io), A4 IO_L19P_0 (io), A5 IO_L21P_0/VREF_0 (io), A6 IO_L22P_0 (io), A7 IO_L24N_0 (io), A8 IO_L24P_0 (io), A9 IO_L54P_0 (io), A10 IO_L72N_0 (io), A11 IO_L72P_0 (io), A12 IO_L93N_1 (io), A13 IO_L93P_1 (io), A14 IO_L92N_1 (io), A15 IO_L92P_1 (io), A16 NC, A17 NC, A18 IO_L52N_1 (io), A19 IO_L52P_1 (io), A20 IO_L21N_1/VREF_1 (io), A21 IO_L21P_1 (io), A22 IO_L05N_1 (io), A23 IO_L05P_1 (io), A24 IO_L02N_1 (io), A25 IO_L02P_1 (io), B1 IO_L02N_0 (io), B3 IO_L04N_0/VREF_0 (io), B4 IO_L19N_0 (io), B5 IO_L21N_0 (io), B6 IO_L22N_0 (io), B7 VCCO_0 (power), B8 IO_L49P_0 (io), B9 IO_L54N_0 (io), B10 VCCO_0 (power), B11 NC, B12 NC, B15 IO_L91N_1 (io), B16 IO_L72N_1 (io), B17 VCCO_1 (power), B18 IO_L49N_1 (io), B19 IO_L24N_1 (io), B20 VCCO_1 (power), B21 IO_L06N_1 (io), B22 IO_L06P_1 (io), B23 IO_L01N_1 (io), B24 IO_L01P_1 (io), C6 IO_L01P_0 (io), C7 IO_L03P_0/VRN_0 (io), C8 IO_L49N_0 (io), C9 IO_L67N_0 (io), C10 IO_L67P_0 (io), C11 NC, C12 IO_L93P_0 (io), C13 IO_L96P_0/GCLK4S (io), C15 IO_L91P_1/VREF_1 (io), C16 IO_L72P_1 (io), C17 IO_L69N_1/VREF_1 (io), C18 IO_L49P_1 (io), C19 IO_L24P_1 (io), C20 IO_L03N_1/VRP_1 (io), C21 IO_L04N_1 (io), D6 IO_L01N_0 (io), D7 IO_L03N_0/VRP_0 (io), D8 NC, D9 IO_L51N_0 (io), D10 IO_L70P_0 (io), D11 NC, D12 IO_L93N_0 (io), D13 IO_L96N_0/GCLK5P (io), D14 IO_L94P_1/VREF_1 (io), D15 NC, D16 IO_L70N_1 (io), D17 IO_L69P_1 (io), D18 IO_L51P_1 (io), D19 IO_L22N_1 (io), D20 IO_L03P_1/VRN_1 (io), D21 IO_L04P_1/VREF_1 (io), E6 IO_L06N_0 (io), E7 IO_L06P_0 (io), E8 NC, E9 IO_L51P_0/VREF_0 (io), E10 IO_L70N_0 (io), E11 NC, E12 IO_L92P_0 (io), E13 IO_L95P_0/GCLK6S (io), E14 IO_L94N_1 (io), E15 NC, E16 IO_L70P_1 (io), E17 IO_L54N_1 (io), E18 IO_L51N_1/VREF_1 (io), E19 IO_L22P_1 (io), E20 IO_L19N_1 (io), F8 NC, F9 IO_L52N_0 (io), F10 IO_L69N_0 (io), F11 NC, F12 IO_L92N_0 (io), F13 IO_L95N_0/GCLK7P (io), F14 IO_L95P_1/GCLK0S (io), F15 NC, F16 NC, F17 IO_L54P_1 (io), F18 NC, F19 NC, F20 IO_L19P_1 (io), G6 IO_L05N_0 (io), G7 IO_L05P_0 (io), G8 NC, G9 IO_L52P_0 (io), G10 IO_L69P_0/VREF_0 (io), G11 NC, G12 IO_L91N_0/VREF_0 (io), G13 IO_L94N_0/VREF_0 (io), G14 IO_L95N_1/GCLK1P (io), G15 NC, G16 NC, G17 IO_L67P_1 (io), G18 NC, G19 NC, H9 VCCO_0 (power), H10 VCCO_0 (power), H11 NC, H12 IO_L91P_0 (io), H13 IO_L94P_0 (io), H14 IO_L96N_1/GCLK3P (io), H15 IO_L96P_1/GCLK2S (io), H16 IO_L67N_1 (io), H17 VCCO_1 (power), H18 VCCO_1 (power), J11 VCCO_0 (power), J12 VCCO_0 (power), J13 VCCO_0 (power), J14 VCCO_1 (power), J15 VCCO_1 (power), J16 VCCO_1 (power)
part B pins: AA22 IO_L01P_3 (io), AA23 IO_L03P_3 (io), AA24 IO_L03N_3/VREF_3 (io), AA25 IO_L24P_3 (io), AA26 IO_L24N_3 (io), AB23 IO_L02P_3/VRN_3 (io), AB24 IO_L02N_3/VRP_3 (io), AB25 IO_L19P_3 (io), AB26 IO_L19N_3 (io), AC25 IO_L06P_3 (io), AC26 IO_L06N_3 (io), AD25 IO_L04P_3 (io), AD26 IO_L04N_3 (io), B26 IO_L01N_2 (io), C25 IO_L03N_2 (io), C26 IO_L01P_2 (io), D25 IO_L03P_2/VREF_2 (io), D26 IO_L19N_2 (io), E23 IO_L04N_2 (io), E24 IO_L04P_2 (io), E25 IO_L22N_2 (io), E26 IO_L19P_2 (io), F23 IO_L21N_2 (io), F24 IO_L21P_2/VREF_2 (io), F25 IO_L22P_2 (io), F26 IO_L43N_2 (io), G20 IO_L02N_2/VRP_2 (io), G21 IO_L06N_2 (io), G22 IO_L06P_2 (io), G23 NC, G24 NC, G25 VCCO_2 (power), G26 IO_L43P_2 (io), H20 IO_L02P_2/VRN_2 (io), H21 IO_L24P_2 (io), H22 IO_L24N_2 (io), H23 IO_L45N_2 (io), H24 IO_L45P_2/VREF_2 (io), H25 IO_L48N_2 (io), H26 IO_L48P_2 (io), J19 VCCO_2 (power), J20 IO_L46P_2 (io), J21 IO_L46N_2 (io), J22 IO_L49N_2 (io), J23 IO_L49P_2 (io), J24 IO_L54N_2 (io), J25 IO_L54P_2 (io), J26 IO_L69N_2 (io), K19 VCCO_2 (power), K20 IO_L52N_2 (io), K21 IO_L51N_2 (io), K22 IO_L51P_2/VREF_2 (io), K23 IO_L67N_2 (io), K24 IO_L67P_2 (io), K25 VCCO_2 (power), K26 IO_L69P_2/VREF_2 (io), L18 VCCO_2 (power), L19 NC, L20 IO_L52P_2 (io), L21 IO_L70P_2 (io), L22 IO_L70N_2 (io), L23 NC, L24 NC, L25 IO_L72N_2 (io), L26 IO_L72P_2 (io), M18 VCCO_2 (power), M19 NC, M20 IO_L93N_2 (io), M21 NC, M22 NC, M23 NC, M24 NC, M25 IO_L91N_2 (io), M26 IO_L91P_2 (io), N18 VCCO_2 (power), N19 IO_L93P_3 (io), N20 IO_L93P_2/VREF_2 (io), N21 IO_L94P_2 (io), N22 IO_L94N_2 (io), N23 IO_L96P_2 (io), N24 IO_L96N_2 (io), N26 IO_L96N_3 (io), P18 VCCO_3 (power), P19 IO_L93N_3/VREF_3 (io), P20 IO_L91P_3 (io), P21 IO_L91N_3 (io), P22 IO_L94P_3 (io), P23 IO_L94N_3 (io), P26 IO_L96P_3 (io), R18 VCCO_3 (power), R19 NC, R20 NC, R21 NC, R22 NC, R23 NC, R24 NC, R25 NC, R26 NC, T18 VCCO_3 (power), T19 IO_L70P_3 (io), T20 IO_L70N_3 (io), T21 IO_L67P_3 (io), T22 IO_L67N_3 (io), T23 IO_L69P_3 (io), T24 IO_L69N_3/VREF_3 (io), T25 IO_L72P_3 (io), T26 IO_L72N_3 (io), U19 VCCO_3 (power), U20 IO_L45N_3/VREF_3 (io), U21 IO_L51P_3 (io), U22 IO_L51N_3/VREF_3 (io), U23 IO_L52P_3 (io), U24 IO_L52N_3 (io), U25 VCCO_3 (power), U26 IO_L54N_3 (io), V19 VCCO_3 (power), V20 IO_L45P_3 (io), V21 NC, V22 IO_L48P_3 (io), V23 IO_L48N_3 (io), V24 IO_L49P_3 (io), V25 IO_L49N_3 (io), V26 IO_L54P_3 (io), W21 NC, W22 IO_L21N_3/VREF_3 (io), W23 IO_L21P_3 (io), W24 IO_L43P_3 (io), W25 IO_L43N_3 (io), W26 IO_L46N_3 (io), Y22 IO_L01N_3 (io), Y23 IO_L22P_3 (io), Y24 IO_L22N_3 (io), Y25 VCCO_3 (power), Y26 IO_L46P_3 (io)
part C pins: AA7 IO_L03P_5/D5/ALT_VRN_5 (io), AA8 IO_L22P_5 (io), AA9 NC, AA10 IO_L52P_5 (io), AA11 IO_L69P_5 (io), AA12 NC, AA13 IO_L95N_5/GCLK5S (io), AA14 IO_L95N_4/GCLK3S (io), AA15 NC, AA16 NC, AA17 IO_L69N_4 (io), AA18 IO_L51N_4 (io), AA19 NC, AA20 IO_L03N_4/D2/ALT_VRP_4 (io), AB6 IO_L01N_5/RDWR_B (io), AB7 IO_L03N_5/D4/ALT_VRP_5 (io), AB8 IO_L22N_5 (io), AB9 NC, AB10 IO_L52N_5 (io), AB11 IO_L72P_5 (io), AB12 NC, AB13 IO_L96P_5/GCLK6P (io), AB14 IO_L95P_4/GCLK2P (io), AB15 IO_L92N_4 (io), AB16 NC, AB17 IO_L69P_4/VREF_4 (io), AB18 IO_L51P_4/VREF_4 (io), AB19 NC, AB20 IO_L03P_4/D3/ALT_VRN_4 (io), AC5 IO_L01P_5/CS_B (io), AC6 IO_L02P_5/D7 (io), AC7 IO_L21N_5/VREF_5 (io), AC8 NC, AC9 NC, AC10 IO_L51P_5 (io), AC11 IO_L72N_5 (io), AC12 NC, AC13 IO_L96N_5/GCLK7S (io), AC14 IO_L96N_4/GCLK1S (io), AC15 IO_L92P_4 (io), AC16 NC, AC17 IO_L70N_4 (io), AC18 IO_L54N_4 (io), AC19 NC, AC20 NC, AC21 IO_L01P_4/INIT_B (io), AC22 IO_L04N_4/VREF_4 (io), AD6 IO_L02N_5/D6 (io), AD7 IO_L21P_5 (io), AD8 NC, AD9 IO_L54P_5 (io), AD10 IO_L51N_5/VREF_5 (io), AD11 NC, AD12 IO_L91P_5/VREF_5 (io), AD14 IO_L96P_4/GCLK0P (io), AD15 IO_L93N_4 (io), AD16 NC, AD17 IO_L70P_4 (io), AD18 IO_L54P_4 (io), AD19 NC, AD20 NC, AD21 IO_L01N_4/DOUT (io), AE3 IO_L05P_5/VRN_5 (io), AE4 IO_L06P_5 (io), AE5 IO_L19P_5 (io), AE6 IO_L24P_5 (io), AE7 VCCO_5 (power), AE8 IO_L49N_5 (io), AE9 IO_L54N_5 (io), AE10 VCCO_5 (power), AE11 NC, AE12 IO_L91N_5 (io), AE15 IO_L93P_4 (io), AE16 NC, AE17 VCCO_4 (power), AE18 IO_L67N_4 (io), AE19 IO_L49N_4 (io), AE20 VCCO_4 (power), AE21 IO_L04P_4 (io), AE22 IO_L22N_4 (io), AE23 IO_L21N_4 (io), AE24 IO_L19N_4 (io), AE26 IO_L05N_4/VRP_4 (io), AF3 IO_L05N_5/VRP_5 (io), AF4 IO_L06N_5 (io), AF5 IO_L19N_5 (io), AF6 IO_L24N_5 (io), AF7 IO_L49P_5 (io), AF8 IO_L67P_5 (io), AF9 IO_L67N_5 (io), AF10 NC, AF11 NC, AF12 IO_L92P_5 (io), AF13 IO_L92N_5 (io), AF14 IO_L93P_5 (io), AF15 IO_L93N_5 (io), AF16 IO_L72P_4 (io), AF17 IO_L72N_4 (io), AF18 IO_L67P_4 (io), AF19 IO_L49P_4 (io), AF20 IO_L24P_4 (io), AF21 IO_L24N_4 (io), AF22 IO_L22P_4 (io), AF23 IO_L21P_4/VREF_4 (io), AF24 IO_L19P_4 (io), AF25 IO_L05P_4/VRN_4 (io), V11 VCCO_5 (power), V12 VCCO_5 (power), V13 VCCO_5 (power), V14 VCCO_4 (power), V15 VCCO_4 (power), V16 VCCO_4 (power), W9 VCCO_5 (power), W10 VCCO_5 (power), W11 IO_L70N_5 (io), W12 IO_L94P_5/VREF_5 (io), W13 IO_L94N_5 (io), W14 IO_L94N_4/VREF_4 (io), W15 IO_L91N_4/VREF_4 (io), W16 IO_L91P_4 (io), W17 VCCO_4 (power), W18 VCCO_4 (power), W20 IO_L06N_4 (io), Y7 IO_L04P_5/VREF_5 (io), Y8 IO_L04N_5 (io), Y9 NC, Y10 IO_L70P_5 (io), Y11 IO_L69N_5/VREF_5 (io), Y12 NC, Y13 IO_L95P_5/GCLK4P (io), Y14 IO_L94P_4 (io), Y15 NC, Y16 NC, Y17 IO_L52P_4 (io), Y18 IO_L52N_4 (io), Y19 IO_L02P_4/D1 (io), Y20 IO_L02N_4/D0 (io), Y21 IO_L06P_4 (io)
part D pins: AA1 IO_L24N_6 (io), AA2 IO_L24P_6 (io), AA3 IO_L19N_6 (io), AA4 IO_L19P_6 (io), AB1 IO_L06N_6 (io), AB2 IO_L06P_6 (io), AB3 IO_L02N_6/VRP_6 (io), AB4 IO_L02P_6/VRN_6 (io), AC1 IO_L04N_6 (io), AC2 IO_L04P_6 (io), AD1 IO_L03N_6/VREF_6 (io), AD2 IO_L03P_6 (io), AE1 IO_L01N_6 (io), AF2 IO_L01P_6 (io), C1 IO_L03P_7/VREF_7 (io), C2 IO_L03N_7 (io), D1 IO_L04P_7 (io), D2 IO_L04N_7 (io), E1 IO_L06P_7 (io), E2 IO_L06N_7 (io), E3 IO_L02P_7/VRN_7 (io), E4 IO_L02N_7/VRP_7 (io), F1 IO_L24N_7 (io), F2 IO_L21N_7 (io), F3 IO_L21P_7/VREF_7 (io), F4 IO_L01N_7 (io), G1 IO_L24P_7 (io), G2 VCCO_7 (power), G3 IO_L22P_7 (io), G4 IO_L22N_7 (io), G5 IO_L01P_7 (io), H1 IO_L49N_7 (io), H2 NC, H3 NC, H4 IO_L45N_7 (io), H5 IO_L45P_7/VREF_7 (io), H6 IO_L19P_7 (io), H7 IO_L19N_7 (io), J1 IO_L67N_7 (io), J2 IO_L49P_7 (io), J3 IO_L48P_7 (io), J4 IO_L48N_7 (io), J5 IO_L46P_7 (io), J6 IO_L46N_7 (io), J7 IO_L43N_7 (io), J8 VCCO_7 (power), K1 IO_L67P_7 (io), K2 VCCO_7 (power), K3 IO_L54P_7 (io), K4 IO_L54N_7 (io), K5 IO_L52P_7 (io), K6 IO_L52N_7 (io), K7 IO_L43P_7 (io), K8 VCCO_7 (power), L1 IO_L72P_7 (io), L2 IO_L72N_7 (io), L3 IO_L69P_7/VREF_7 (io), L4 IO_L69N_7 (io), L5 IO_L70P_7 (io), L6 IO_L70N_7 (io), L7 IO_L51N_7 (io), L8 IO_L51P_7/VREF_7 (io), L9 VCCO_7 (power), M1 NC, M2 NC, M3 NC, M4 NC, M5 NC, M6 NC, M7 NC, M8 NC, M9 VCCO_7 (power), N1 IO_L96N_7 (io), N4 IO_L94P_7 (io), N5 IO_L94N_7 (io), N6 IO_L93P_7/VREF_7 (io), N7 IO_L93N_7 (io), N8 IO_L91N_7 (io), N9 VCCO_7 (power), P1 IO_L96P_7 (io), P3 IO_L96N_6 (io), P4 IO_L96P_6 (io), P5 IO_L94N_6 (io), P6 IO_L94P_6 (io), P7 IO_L93N_6/VREF_6 (io), P8 IO_L91P_7 (io), P9 VCCO_6 (power), R1 IO_L91N_6 (io), R2 IO_L91P_6 (io), R3 NC, R4 NC, R5 NC, R6 NC, R7 IO_L93P_6 (io), R8 IO_L72N_6 (io), R9 VCCO_6 (power), T1 NC, T2 NC, T3 NC, T4 NC, T5 IO_L70P_6 (io), T6 IO_L70N_6 (io), T7 IO_L54N_6 (io), T8 IO_L72P_6 (io), T9 VCCO_6 (power), U1 IO_L52N_6 (io), U2 VCCO_6 (power), U3 IO_L67N_6 (io), U4 IO_L67P_6 (io), U5 IO_L69N_6/VREF_6 (io), U6 IO_L69P_6 (io), U7 IO_L54P_6 (io), U8 VCCO_6 (power), V1 IO_L52P_6 (io), V2 IO_L51N_6/VREF_6 (io), V3 IO_L51P_6 (io), V4 IO_L49N_6 (io), V5 IO_L49P_6 (io), V6 IO_L48P_6 (io), V7 IO_L48N_6 (io), V8 VCCO_6 (power), W1 IO_L46N_6 (io), W2 IO_L45P_6 (io), W3 IO_L45N_6/VREF_6 (io), W4 IO_L43N_6 (io), W5 IO_L43P_6 (io), W6 IO_L22P_6 (io), W7 IO_L22N_6 (io), Y1 IO_L46P_6 (io), Y2 VCCO_6 (power), Y3 NC, Y4 NC, Y5 IO_L21N_6/VREF_6 (io), Y6 IO_L21P_6 (io)
part E pins: AA5 M1 (in), AB21 CCLK (io), AC3 VCCAUX (power), AC24 VCCAUX (power), AD4 M0 (in), AD5 M2 (in), AD13 VCCAUX (power), AD22 DONE (io), AD23 PWRDWN_B (in), C4 PROG_B (in), C5 DXP, C14 VCCAUX (power), C22 RSVD, C23 VBATT (power), D3 VCCAUX (power), D5 HSWAP_EN (in), D22 TMS (in), D24 VCCAUX (power), E21 TCK (in), F5 TDI (in), F7 DXN, F22 TDO (out), H8 VCCINT (power), H19 VCCINT (power), J9 VCCINT (power), J10 VCCINT (power), J17 VCCINT (power), J18 VCCINT (power), K9 VCCINT (power), K18 VCCINT (power), N3 VCCAUX (power), P24 VCCAUX (power), U9 VCCINT (power), U18 VCCINT (power), V9 VCCINT (power), V10 VCCINT (power), V17 VCCINT (power), V18 VCCINT (power), W8 VCCINT (power), W19 VCCINT (power)
part F pins: A1 GND (power), A26 GND (power), AA6 GND (power), AA21 GND (power), AB5 GND (power), AB22 GND (power), AC4 GND (power), AC23 GND (power), AD3 GND (power), AD24 GND (power), AE2 GND (power), AE13 GND (power), AE14 GND (power), AE25 GND (power), AF1 GND (power), AF26 GND (power), B2 GND (power), B13 GND (power), B14 GND (power), B25 GND (power), C3 GND (power), C24 GND (power), D4 GND (power), D23 GND (power), E5 GND (power), E22 GND (power), F6 GND (power), F21 GND (power), K10 GND (power), K11 GND (power), K12 GND (power), K13 GND (power), K14 GND (power), K15 GND (power), K16 GND (power), K17 GND (power), L10 GND (power), L11 GND (power), L12 GND (power), L13 GND (power), L14 GND (power), L15 GND (power), L16 GND (power), L17 GND (power), M10 GND (power), M11 GND (power), M12 GND (power), M13 GND (power), M14 GND (power), M15 GND (power), M16 GND (power), M17 GND (power), N2 GND (power), N10 GND (power), N11 GND (power), N12 GND (power), N13 GND (power), N14 GND (power), N15 GND (power), N16 GND (power), N17 GND (power), N25 GND (power), P2 GND (power), P10 GND (power), P11 GND (power), P12 GND (power), P13 GND (power), P14 GND (power), P15 GND (power), P16 GND (power), P17 GND (power), P25 GND (power), R10 GND (power), R11 GND (power), R12 GND (power), R13 GND (power), R14 GND (power), R15 GND (power), R16 GND (power), R17 GND (power), T10 GND (power), T11 GND (power), T12 GND (power), T13 GND (power), T14 GND (power), T15 GND (power), T16 GND (power), T17 GND (power), U10 GND (power), U11 GND (power), U12 GND (power), U13 GND (power), U14 GND (power), U15 GND (power), U16 GND (power), U17 GND (power)
part A text: BANK 0; BANK 1
part B text: BANK 2; BANK 3
part C text: BANK 4; BANK 5
part D text: BANK 6; BANK 7

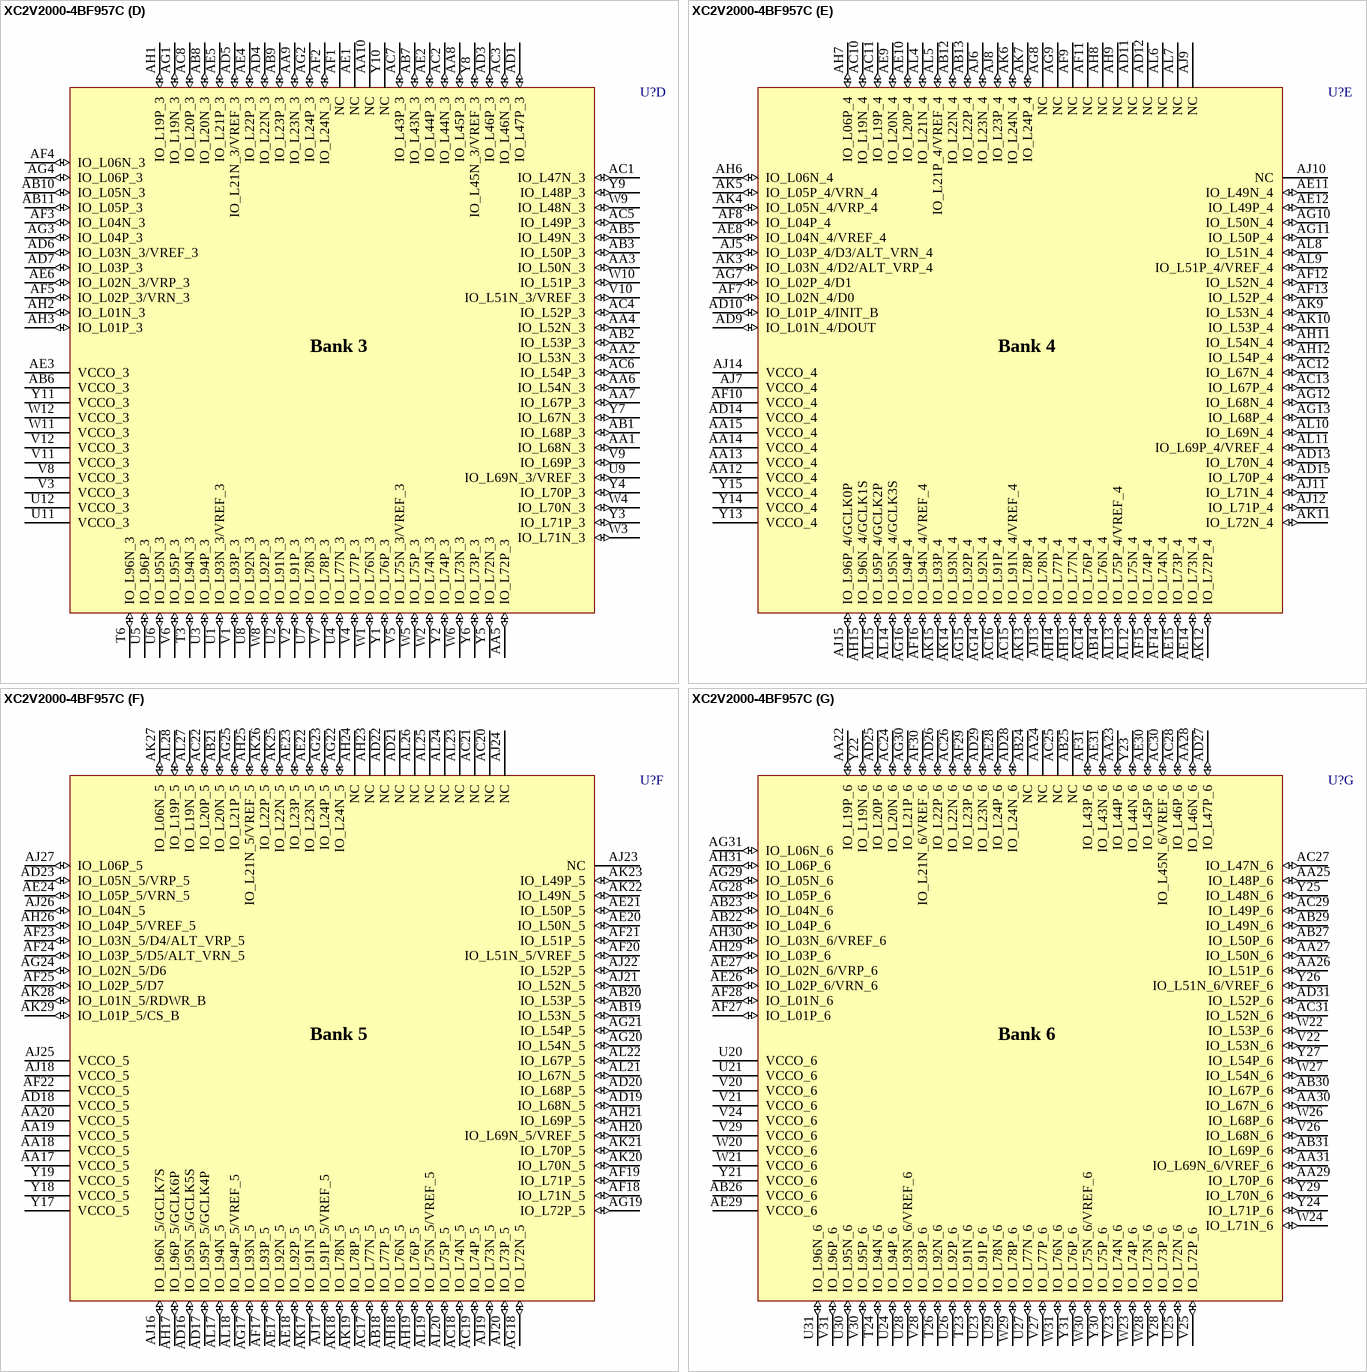
[diagram p159: symbol XC2V2000-4BF957C]

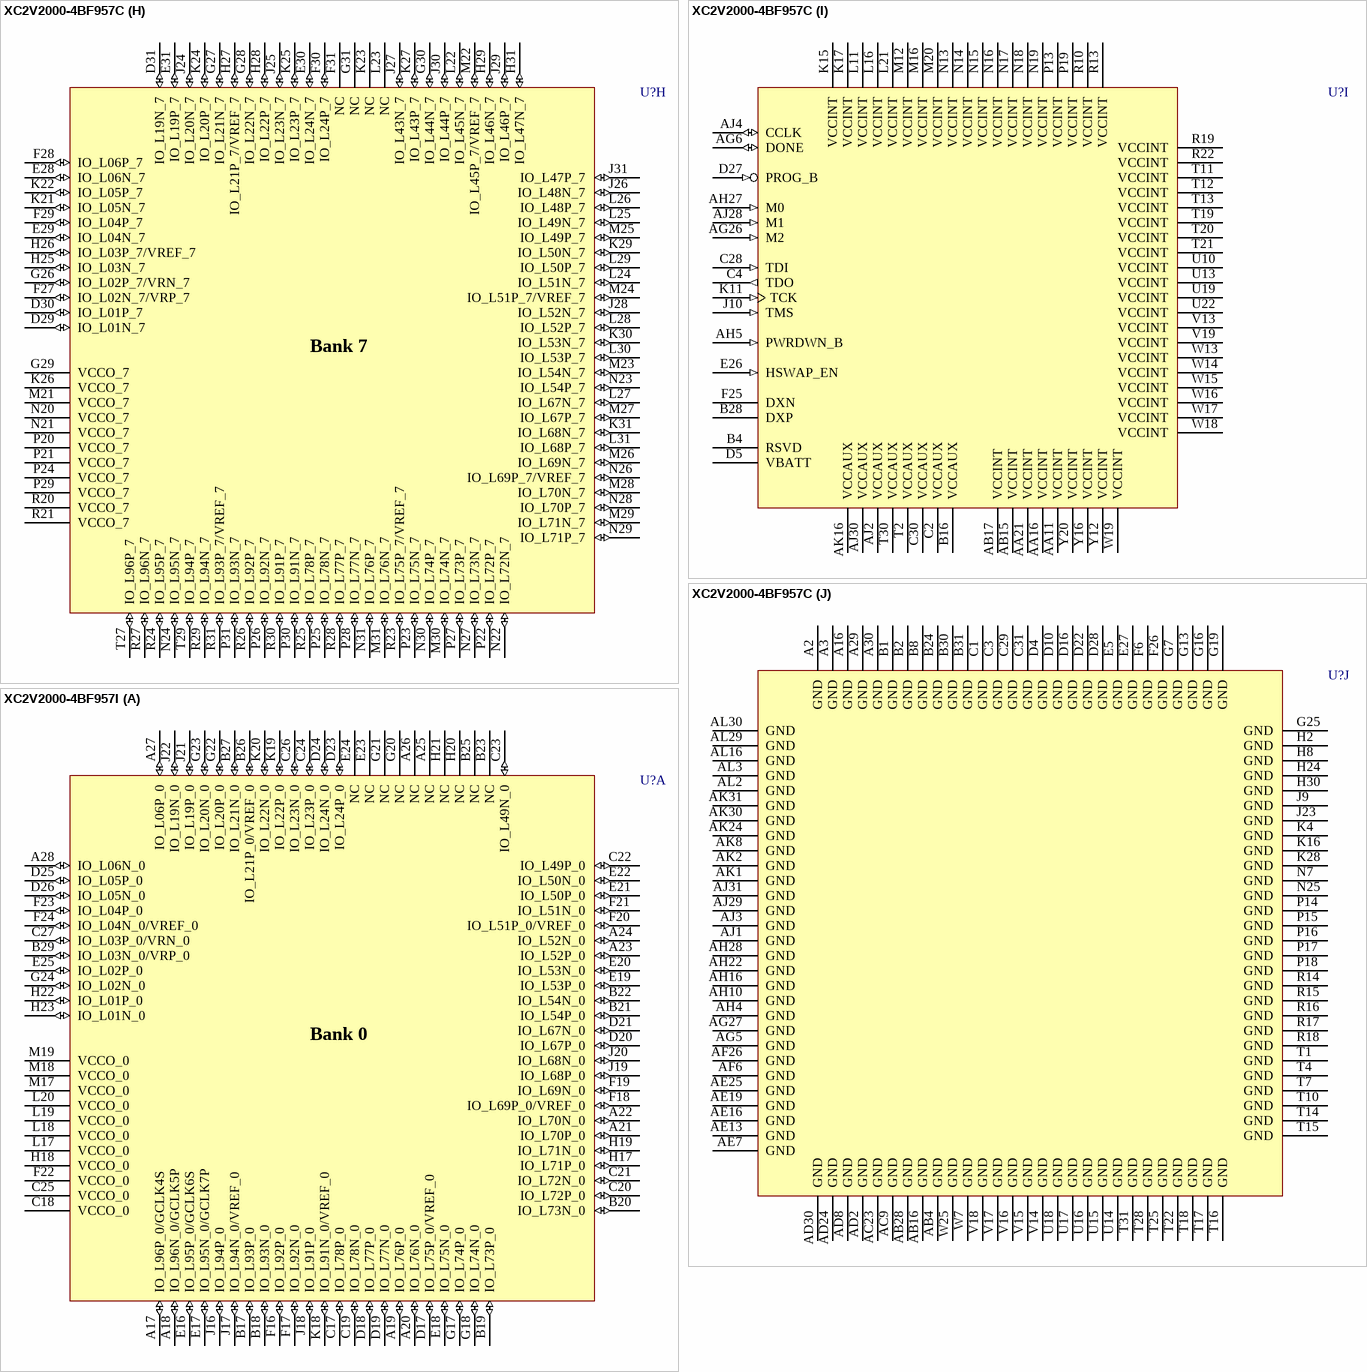
[diagram p160: symbols XC2V2000-4BF957C to XC2V2000-4BF957I]